# Altium integrated library STMicroelectronics STM32 F1.IntLib: 243 symbols (part 4 of 18)
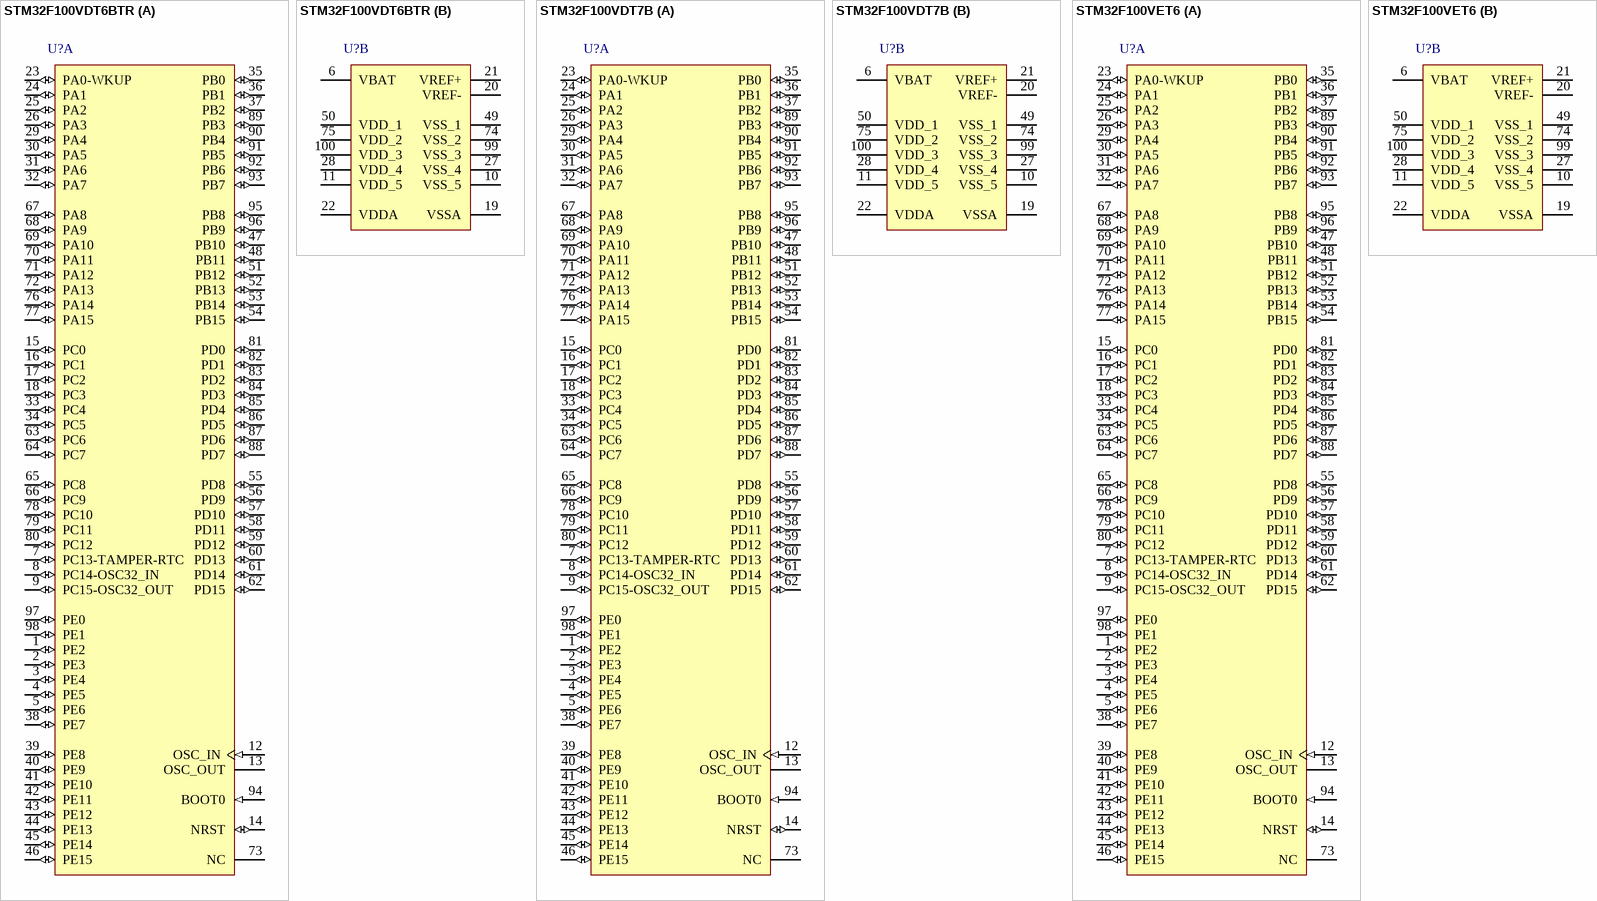
[diagram p45: symbols STM32F100VDT6BTR to STM32F100VET6]

## STM32F100VDT6BTR
designator U?
ARM Cortex-M3 32-bit MCU, 384 KB Flash, 32 KB Internal RAM, 80 I/Os, 100-pin LQFP, -40 to 85 degC, Tape and Reel
footprint STM-LQFP100_N (Thin QFP, 100-Leads, Body 14x14mm, Pitch 0.5mm, IPC Medium Density)
footprint STM-LQFP100_L (Thin QFP, 100-Leads, Body 14x14mm, Pitch 0.5mm, IPC High Density)
footprint STM-LQFP100_M (Thin QFP, 100-Leads, Body 14x14mm, Pitch 0.5mm, IPC Low Density)
footprint STM-LQFP100_V (Thin QFP, 100-Leads, Body 14x14mm, Pitch 0.5mm, ST Recommended)
part A pins: 1 PE2 (io) "PE2/TRACECK/FSMC_A23", 2 PE3 (io) "PE3/TRACED0/FSMC_A19", 3 PE4 (io) "PE4/TRACED1/FSMC_A20", 4 PE5 (io) "PE5/TRACED2/FSMC_A21", 5 PE6 (io) "PE6/TRACED3/FSMC_A22", 7 PC13-TAMPER-RTC (io) "PC13-TAMPER-RTC/PC13/TAMPER-RTC", 8 PC14-OSC32_IN (io) "PC14-OSC32_IN/PC14/OSC32_IN", 9 PC15-OSC32_OUT (io) "PC15-OSC32_OUT/PC15/OSC32_OUT", 12 OSC_IN (in), 13 OSC_OUT, 14 NRST (io), 15 PC0 (io) "PC0/ADC_IN10", 16 PC1 (io) "PC1/ADC_IN11", 17 PC2 (io) "PC2/ADC_IN12", 18 PC3 (io) "PC3/ADC_IN13", 23 PA0-WKUP (io) "PA0-WKUP/PA0/WKUP/USART2_CTS/ADC_IN0/TIM2_CH1_ETR/TIM5_CH1", 24 PA1 (io) "PA1/USART2_RTS/ADC_IN1/TIM5_CH2/TIM2_CH2", 25 PA2 (io) "PA2/USART2_TX/TIM5_CH3/ADC_IN2/TIM15_CH1/TIM2_CH3", 26 PA3 (io) "PA3/USART2_RX/TIM5_CH4/ADC_IN3/TIM2_CH4/TIM15_CH2", 29 PA4 (io) "PA4/SPI1_NSS/USART2_CK/DAC_OUT1/ADC_IN4", 30 PA5 (io) "PA5/SPI1_SCK/DAC_OUT2/ADC_IN5", 31 PA6 (io) "PA6/SPI1_MISO/ADC_IN6/TIM3_CH1/TIM1_BKIN/TIM16_CH1", 32 PA7 (io) "PA7/SPI1_MOSI/ADC_IN7/TIM3_CH2/TIM1_CH1N/TIM17_CH1", 33 PC4 (io) "PC4/ADC_IN14/TIM12_CH1", 34 PC5 (io) "PC5/ADC_IN15/TIM12_CH2", 35 PB0 (io) "PB0/ADC_IN8/TIM3_CH3/TIM1_CH2N/TIM13_CH1", 36 PB1 (io) "PB1/ADC_IN9/TIM3_CH4/TIM1_CH3N/TIM14_CH1", 37 PB2 (io) "PB2/BOOT1", 38 PE7 (io) "PE7/FSMC_D4/TIM1_ETR", 39 PE8 (io) "PE8/FSMC_D5/TIM1_CH1N", 40 PE9 (io) "PE9/FSMC_D6/TIM1_CH1", 41 PE10 (io) "PE10/FSMC_D7/TIM1_CH2N", 42 PE11 (io) "PE11/FSMC_D8/TIM1_CH2", 43 PE12 (io) "PE12/FSMC_D9/TIM1_CH3N", 44 PE13 (io) "PE13/FSMC_D10/TIM1_CH3", 45 PE14 (io) "PE14/FSMC_D11/TIM1_CH4", 46 PE15 (io) "PE15/FSMC_D12/TIM1_BKIN", 47 PB10 (io) "PB10/I2C2_SCL/USART3_TX/TIM2_CH3/HDMI_CEC", 48 PB11 (io) "PB11/I2C2_SDA/USART3_RX/TIM2_CH4", 51 PB12 (io) "PB12/SPI2_NSS/I2C2_SMBA/USART3_CK/TIM1_BKIN/TIM12_CH1", 52 PB13 (io) "PB13/SPI2_SCK/USART3_CTS/TIM1_CH1N/TIM12_CH2", 53 PB14 (io) "PB14/SPI2_MISO/TIM1_CH2N/USART3_RTS/TIM15_CH1", 54 PB15 (io) "PB15/SPI2_MOSI/TIM1_CH3N/TIM15_CH1N/TIM15_CH2", 55 PD8 (io) "PD8/FSMC_D13/USART3_TX", 56 PD9 (io) "PD9/FSMC_D14/USART3_RX", 57 PD10 (io) "PD10/FSMC_D15/USART3_CK", 58 PD11 (io) "PD11/FSMC_A16/USART3_CTS", 59 PD12 (io) "PD12/FSMC_A17/TIM4_CH1/USART3_RTS", 60 PD13 (io) "PD13/FSMC_A18/TIM4_CH2", 61 PD14 (io) "PD14/FSMC_D0/TIM4_CH3", 62 PD15 (io) "PD15/FSMC_D1/TIM4_CH4", 63 PC6 (io) "PC6/TIM3_CH1", 64 PC7 (io) "PC7/TIM3_CH2", 65 PC8 (io) "PC8/TIM13_CH1/TIM3_CH3", 66 PC9 (io) "PC9/TIM14_CH1/TIM3_CH4", 67 PA8 (io) "PA8/USART1_CK/TIM1_CH1/MCO", 68 PA9 (io) "PA9/USART1_TX/TIM1_CH2/TIM15_BKIN", 69 PA10 (io) "PA10/USART1_RX/TIM1_CH3/TIM17_BKIN", 70 PA11 (io) "PA11/USART1_CTS/TIM1_CH4", 71 PA12 (io) "PA12/USART1_RTS/TIM1_ETR", 72 PA13 (io) "PA13/JTMS-SWDIO", 73 NC, 76 PA14 (io) "PA14/JTCK-SWCLK", 77 PA15 (io) "PA15/JTDI/SPI3_NSS/TIM2_CH1_ETR/SPI1_NSS", 78 PC10 (io) "PC10/UART4_TX/USART3_TX", 79 PC11 (io) "PC11/UART4_RX/USART3_RX", 80 PC12 (io) "PC12/UART5_TX/USART3_CK", 81 PD0 (io) "PD0/FSMC_D2", 82 PD1 (io) "PD1/FSMC_D3", 83 PD2 (io) "PD2/TIM3_ETR/UART5_RX", 84 PD3 (io) "PD3/FSMC_CLK/USART2_CTS", 85 PD4 (io) "PD4/FSMC_NOE/USART2_RTS", 86 PD5 (io) "PD5/FSMC_NWE/USART2_TX", 87 PD6 (io) "PD6/FSMC_NWAIT/USART2_RX", 88 PD7 (io) "PD7/FSMC_NE1/USART2_CK", 89 PB3 (io) "PB3/JTDO/SPI3_SCK/TRACESWO/TIM2_CH2/SPI1_SCK", 90 PB4 (io) "PB4/NJTRST/SPI3_MISO/TIM3_CH1/SPI1_MISO", 91 PB5 (io) "PB5/I2C1_SMBA/SPI3_MOSI/TIM16_BKIN/TIM3_CH2/SPI1_MOSI", 92 PB6 (io) "PB6/I2C1_SCL/TIM4_CH1/TIM16_CH1N/USART1_TX", 93 PB7 (io) "PB7/I2C1_SDA/FSMC_NADV/TIM4_CH2/TIM17_CH1N/USART1_RX", 94 BOOT0 (in), 95 PB8 (io) "PB8/TIM4_CH3/TIM16_CH1/HDMI_CEC/I2C1_SCL", 96 PB9 (io) "PB9/TIM4_CH4/TIM17_CH1/I2C1_SDA", 97 PE0 (io) "PE0/TIM4_ETR/FSMC_NBL0", 98 PE1 (io) "PE1/FSMC_NBL1"
part B pins: 6 VBAT (power), 10 VSS_5 (power), 11 VDD_5 (power), 19 VSSA (power), 20 VREF- (power), 21 VREF+ (power), 22 VDDA (power), 27 VSS_4 (power), 28 VDD_4 (power), 49 VSS_1 (power), 50 VDD_1 (power), 74 VSS_2 (power), 75 VDD_2 (power), 99 VSS_3 (power), 100 VDD_3 (power)

## STM32F100VDT7B
designator U?
ARM Cortex-M3 32-bit MCU, 384 KB Flash, 32 KB Internal RAM, 80 I/Os, 100-pin LQFP, -40 to 105 degC, Tray
footprint STM-LQFP100_N (Thin QFP, 100-Leads, Body 14x14mm, Pitch 0.5mm, IPC Medium Density)
footprint STM-LQFP100_L (Thin QFP, 100-Leads, Body 14x14mm, Pitch 0.5mm, IPC High Density)
footprint STM-LQFP100_M (Thin QFP, 100-Leads, Body 14x14mm, Pitch 0.5mm, IPC Low Density)
footprint STM-LQFP100_V (Thin QFP, 100-Leads, Body 14x14mm, Pitch 0.5mm, ST Recommended)
part A pins: 1 PE2 (io) "PE2/TRACECK/FSMC_A23", 2 PE3 (io) "PE3/TRACED0/FSMC_A19", 3 PE4 (io) "PE4/TRACED1/FSMC_A20", 4 PE5 (io) "PE5/TRACED2/FSMC_A21", 5 PE6 (io) "PE6/TRACED3/FSMC_A22", 7 PC13-TAMPER-RTC (io) "PC13-TAMPER-RTC/PC13/TAMPER-RTC", 8 PC14-OSC32_IN (io) "PC14-OSC32_IN/PC14/OSC32_IN", 9 PC15-OSC32_OUT (io) "PC15-OSC32_OUT/PC15/OSC32_OUT", 12 OSC_IN (in), 13 OSC_OUT, 14 NRST (io), 15 PC0 (io) "PC0/ADC_IN10", 16 PC1 (io) "PC1/ADC_IN11", 17 PC2 (io) "PC2/ADC_IN12", 18 PC3 (io) "PC3/ADC_IN13", 23 PA0-WKUP (io) "PA0-WKUP/PA0/WKUP/USART2_CTS/ADC_IN0/TIM2_CH1_ETR/TIM5_CH1", 24 PA1 (io) "PA1/USART2_RTS/ADC_IN1/TIM5_CH2/TIM2_CH2", 25 PA2 (io) "PA2/USART2_TX/TIM5_CH3/ADC_IN2/TIM15_CH1/TIM2_CH3", 26 PA3 (io) "PA3/USART2_RX/TIM5_CH4/ADC_IN3/TIM2_CH4/TIM15_CH2", 29 PA4 (io) "PA4/SPI1_NSS/USART2_CK/DAC_OUT1/ADC_IN4", 30 PA5 (io) "PA5/SPI1_SCK/DAC_OUT2/ADC_IN5", 31 PA6 (io) "PA6/SPI1_MISO/ADC_IN6/TIM3_CH1/TIM1_BKIN/TIM16_CH1", 32 PA7 (io) "PA7/SPI1_MOSI/ADC_IN7/TIM3_CH2/TIM1_CH1N/TIM17_CH1", 33 PC4 (io) "PC4/ADC_IN14/TIM12_CH1", 34 PC5 (io) "PC5/ADC_IN15/TIM12_CH2", 35 PB0 (io) "PB0/ADC_IN8/TIM3_CH3/TIM1_CH2N/TIM13_CH1", 36 PB1 (io) "PB1/ADC_IN9/TIM3_CH4/TIM1_CH3N/TIM14_CH1", 37 PB2 (io) "PB2/BOOT1", 38 PE7 (io) "PE7/FSMC_D4/TIM1_ETR", 39 PE8 (io) "PE8/FSMC_D5/TIM1_CH1N", 40 PE9 (io) "PE9/FSMC_D6/TIM1_CH1", 41 PE10 (io) "PE10/FSMC_D7/TIM1_CH2N", 42 PE11 (io) "PE11/FSMC_D8/TIM1_CH2", 43 PE12 (io) "PE12/FSMC_D9/TIM1_CH3N", 44 PE13 (io) "PE13/FSMC_D10/TIM1_CH3", 45 PE14 (io) "PE14/FSMC_D11/TIM1_CH4", 46 PE15 (io) "PE15/FSMC_D12/TIM1_BKIN", 47 PB10 (io) "PB10/I2C2_SCL/USART3_TX/TIM2_CH3/HDMI_CEC", 48 PB11 (io) "PB11/I2C2_SDA/USART3_RX/TIM2_CH4", 51 PB12 (io) "PB12/SPI2_NSS/I2C2_SMBA/USART3_CK/TIM1_BKIN/TIM12_CH1", 52 PB13 (io) "PB13/SPI2_SCK/USART3_CTS/TIM1_CH1N/TIM12_CH2", 53 PB14 (io) "PB14/SPI2_MISO/TIM1_CH2N/USART3_RTS/TIM15_CH1", 54 PB15 (io) "PB15/SPI2_MOSI/TIM1_CH3N/TIM15_CH1N/TIM15_CH2", 55 PD8 (io) "PD8/FSMC_D13/USART3_TX", 56 PD9 (io) "PD9/FSMC_D14/USART3_RX", 57 PD10 (io) "PD10/FSMC_D15/USART3_CK", 58 PD11 (io) "PD11/FSMC_A16/USART3_CTS", 59 PD12 (io) "PD12/FSMC_A17/TIM4_CH1/USART3_RTS", 60 PD13 (io) "PD13/FSMC_A18/TIM4_CH2", 61 PD14 (io) "PD14/FSMC_D0/TIM4_CH3", 62 PD15 (io) "PD15/FSMC_D1/TIM4_CH4", 63 PC6 (io) "PC6/TIM3_CH1", 64 PC7 (io) "PC7/TIM3_CH2", 65 PC8 (io) "PC8/TIM13_CH1/TIM3_CH3", 66 PC9 (io) "PC9/TIM14_CH1/TIM3_CH4", 67 PA8 (io) "PA8/USART1_CK/TIM1_CH1/MCO", 68 PA9 (io) "PA9/USART1_TX/TIM1_CH2/TIM15_BKIN", 69 PA10 (io) "PA10/USART1_RX/TIM1_CH3/TIM17_BKIN", 70 PA11 (io) "PA11/USART1_CTS/TIM1_CH4", 71 PA12 (io) "PA12/USART1_RTS/TIM1_ETR", 72 PA13 (io) "PA13/JTMS-SWDIO", 73 NC, 76 PA14 (io) "PA14/JTCK-SWCLK", 77 PA15 (io) "PA15/JTDI/SPI3_NSS/TIM2_CH1_ETR/SPI1_NSS", 78 PC10 (io) "PC10/UART4_TX/USART3_TX", 79 PC11 (io) "PC11/UART4_RX/USART3_RX", 80 PC12 (io) "PC12/UART5_TX/USART3_CK", 81 PD0 (io) "PD0/FSMC_D2", 82 PD1 (io) "PD1/FSMC_D3", 83 PD2 (io) "PD2/TIM3_ETR/UART5_RX", 84 PD3 (io) "PD3/FSMC_CLK/USART2_CTS", 85 PD4 (io) "PD4/FSMC_NOE/USART2_RTS", 86 PD5 (io) "PD5/FSMC_NWE/USART2_TX", 87 PD6 (io) "PD6/FSMC_NWAIT/USART2_RX", 88 PD7 (io) "PD7/FSMC_NE1/USART2_CK", 89 PB3 (io) "PB3/JTDO/SPI3_SCK/TRACESWO/TIM2_CH2/SPI1_SCK", 90 PB4 (io) "PB4/NJTRST/SPI3_MISO/TIM3_CH1/SPI1_MISO", 91 PB5 (io) "PB5/I2C1_SMBA/SPI3_MOSI/TIM16_BKIN/TIM3_CH2/SPI1_MOSI", 92 PB6 (io) "PB6/I2C1_SCL/TIM4_CH1/TIM16_CH1N/USART1_TX", 93 PB7 (io) "PB7/I2C1_SDA/FSMC_NADV/TIM4_CH2/TIM17_CH1N/USART1_RX", 94 BOOT0 (in), 95 PB8 (io) "PB8/TIM4_CH3/TIM16_CH1/HDMI_CEC/I2C1_SCL", 96 PB9 (io) "PB9/TIM4_CH4/TIM17_CH1/I2C1_SDA", 97 PE0 (io) "PE0/TIM4_ETR/FSMC_NBL0", 98 PE1 (io) "PE1/FSMC_NBL1"
part B pins: 6 VBAT (power), 10 VSS_5 (power), 11 VDD_5 (power), 19 VSSA (power), 20 VREF- (power), 21 VREF+ (power), 22 VDDA (power), 27 VSS_4 (power), 28 VDD_4 (power), 49 VSS_1 (power), 50 VDD_1 (power), 74 VSS_2 (power), 75 VDD_2 (power), 99 VSS_3 (power), 100 VDD_3 (power)

## STM32F100VET6
designator U?
ARM Cortex-M3 32-bit MCU, 512 KB Flash, 32 KB Internal RAM, 80 I/Os, 100-pin LQFP, -40 to 85 degC, Tray
footprint STM-LQFP100_N (Thin QFP, 100-Leads, Body 14x14mm, Pitch 0.5mm, IPC Medium Density)
footprint STM-LQFP100_L (Thin QFP, 100-Leads, Body 14x14mm, Pitch 0.5mm, IPC High Density)
footprint STM-LQFP100_M (Thin QFP, 100-Leads, Body 14x14mm, Pitch 0.5mm, IPC Low Density)
footprint STM-LQFP100_V (Thin QFP, 100-Leads, Body 14x14mm, Pitch 0.5mm, ST Recommended)
part A pins: 1 PE2 (io) "PE2/TRACECK/FSMC_A23", 2 PE3 (io) "PE3/TRACED0/FSMC_A19", 3 PE4 (io) "PE4/TRACED1/FSMC_A20", 4 PE5 (io) "PE5/TRACED2/FSMC_A21", 5 PE6 (io) "PE6/TRACED3/FSMC_A22", 7 PC13-TAMPER-RTC (io) "PC13-TAMPER-RTC/PC13/TAMPER-RTC", 8 PC14-OSC32_IN (io) "PC14-OSC32_IN/PC14/OSC32_IN", 9 PC15-OSC32_OUT (io) "PC15-OSC32_OUT/PC15/OSC32_OUT", 12 OSC_IN (in), 13 OSC_OUT, 14 NRST (io), 15 PC0 (io) "PC0/ADC_IN10", 16 PC1 (io) "PC1/ADC_IN11", 17 PC2 (io) "PC2/ADC_IN12", 18 PC3 (io) "PC3/ADC_IN13", 23 PA0-WKUP (io) "PA0-WKUP/PA0/WKUP/USART2_CTS/ADC_IN0/TIM2_CH1_ETR/TIM5_CH1", 24 PA1 (io) "PA1/USART2_RTS/ADC_IN1/TIM5_CH2/TIM2_CH2", 25 PA2 (io) "PA2/USART2_TX/TIM5_CH3/ADC_IN2/TIM15_CH1/TIM2_CH3", 26 PA3 (io) "PA3/USART2_RX/TIM5_CH4/ADC_IN3/TIM2_CH4/TIM15_CH2", 29 PA4 (io) "PA4/SPI1_NSS/USART2_CK/DAC_OUT1/ADC_IN4", 30 PA5 (io) "PA5/SPI1_SCK/DAC_OUT2/ADC_IN5", 31 PA6 (io) "PA6/SPI1_MISO/ADC_IN6/TIM3_CH1/TIM1_BKIN/TIM16_CH1", 32 PA7 (io) "PA7/SPI1_MOSI/ADC_IN7/TIM3_CH2/TIM1_CH1N/TIM17_CH1", 33 PC4 (io) "PC4/ADC_IN14/TIM12_CH1", 34 PC5 (io) "PC5/ADC_IN15/TIM12_CH2", 35 PB0 (io) "PB0/ADC_IN8/TIM3_CH3/TIM1_CH2N/TIM13_CH1", 36 PB1 (io) "PB1/ADC_IN9/TIM3_CH4/TIM1_CH3N/TIM14_CH1", 37 PB2 (io) "PB2/BOOT1", 38 PE7 (io) "PE7/FSMC_D4/TIM1_ETR", 39 PE8 (io) "PE8/FSMC_D5/TIM1_CH1N", 40 PE9 (io) "PE9/FSMC_D6/TIM1_CH1", 41 PE10 (io) "PE10/FSMC_D7/TIM1_CH2N", 42 PE11 (io) "PE11/FSMC_D8/TIM1_CH2", 43 PE12 (io) "PE12/FSMC_D9/TIM1_CH3N", 44 PE13 (io) "PE13/FSMC_D10/TIM1_CH3", 45 PE14 (io) "PE14/FSMC_D11/TIM1_CH4", 46 PE15 (io) "PE15/FSMC_D12/TIM1_BKIN", 47 PB10 (io) "PB10/I2C2_SCL/USART3_TX/TIM2_CH3/HDMI_CEC", 48 PB11 (io) "PB11/I2C2_SDA/USART3_RX/TIM2_CH4", 51 PB12 (io) "PB12/SPI2_NSS/I2C2_SMBA/USART3_CK/TIM1_BKIN/TIM12_CH1", 52 PB13 (io) "PB13/SPI2_SCK/USART3_CTS/TIM1_CH1N/TIM12_CH2", 53 PB14 (io) "PB14/SPI2_MISO/TIM1_CH2N/USART3_RTS/TIM15_CH1", 54 PB15 (io) "PB15/SPI2_MOSI/TIM1_CH3N/TIM15_CH1N/TIM15_CH2", 55 PD8 (io) "PD8/FSMC_D13/USART3_TX", 56 PD9 (io) "PD9/FSMC_D14/USART3_RX", 57 PD10 (io) "PD10/FSMC_D15/USART3_CK", 58 PD11 (io) "PD11/FSMC_A16/USART3_CTS", 59 PD12 (io) "PD12/FSMC_A17/TIM4_CH1/USART3_RTS", 60 PD13 (io) "PD13/FSMC_A18/TIM4_CH2", 61 PD14 (io) "PD14/FSMC_D0/TIM4_CH3", 62 PD15 (io) "PD15/FSMC_D1/TIM4_CH4", 63 PC6 (io) "PC6/TIM3_CH1", 64 PC7 (io) "PC7/TIM3_CH2", 65 PC8 (io) "PC8/TIM13_CH1/TIM3_CH3", 66 PC9 (io) "PC9/TIM14_CH1/TIM3_CH4", 67 PA8 (io) "PA8/USART1_CK/TIM1_CH1/MCO", 68 PA9 (io) "PA9/USART1_TX/TIM1_CH2/TIM15_BKIN", 69 PA10 (io) "PA10/USART1_RX/TIM1_CH3/TIM17_BKIN", 70 PA11 (io) "PA11/USART1_CTS/TIM1_CH4", 71 PA12 (io) "PA12/USART1_RTS/TIM1_ETR", 72 PA13 (io) "PA13/JTMS-SWDIO", 73 NC, 76 PA14 (io) "PA14/JTCK-SWCLK", 77 PA15 (io) "PA15/JTDI/SPI3_NSS/TIM2_CH1_ETR/SPI1_NSS", 78 PC10 (io) "PC10/UART4_TX/USART3_TX", 79 PC11 (io) "PC11/UART4_RX/USART3_RX", 80 PC12 (io) "PC12/UART5_TX/USART3_CK", 81 PD0 (io) "PD0/FSMC_D2", 82 PD1 (io) "PD1/FSMC_D3", 83 PD2 (io) "PD2/TIM3_ETR/UART5_RX", 84 PD3 (io) "PD3/FSMC_CLK/USART2_CTS", 85 PD4 (io) "PD4/FSMC_NOE/USART2_RTS", 86 PD5 (io) "PD5/FSMC_NWE/USART2_TX", 87 PD6 (io) "PD6/FSMC_NWAIT/USART2_RX", 88 PD7 (io) "PD7/FSMC_NE1/USART2_CK", 89 PB3 (io) "PB3/JTDO/SPI3_SCK/TRACESWO/TIM2_CH2/SPI1_SCK", 90 PB4 (io) "PB4/NJTRST/SPI3_MISO/TIM3_CH1/SPI1_MISO", 91 PB5 (io) "PB5/I2C1_SMBA/SPI3_MOSI/TIM16_BKIN/TIM3_CH2/SPI1_MOSI", 92 PB6 (io) "PB6/I2C1_SCL/TIM4_CH1/TIM16_CH1N/USART1_TX", 93 PB7 (io) "PB7/I2C1_SDA/FSMC_NADV/TIM4_CH2/TIM17_CH1N/USART1_RX", 94 BOOT0 (in), 95 PB8 (io) "PB8/TIM4_CH3/TIM16_CH1/HDMI_CEC/I2C1_SCL", 96 PB9 (io) "PB9/TIM4_CH4/TIM17_CH1/I2C1_SDA", 97 PE0 (io) "PE0/TIM4_ETR/FSMC_NBL0", 98 PE1 (io) "PE1/FSMC_NBL1"
part B pins: 6 VBAT (power), 10 VSS_5 (power), 11 VDD_5 (power), 19 VSSA (power), 20 VREF- (power), 21 VREF+ (power), 22 VDDA (power), 27 VSS_4 (power), 28 VDD_4 (power), 49 VSS_1 (power), 50 VDD_1 (power), 74 VSS_2 (power), 75 VDD_2 (power), 99 VSS_3 (power), 100 VDD_3 (power)

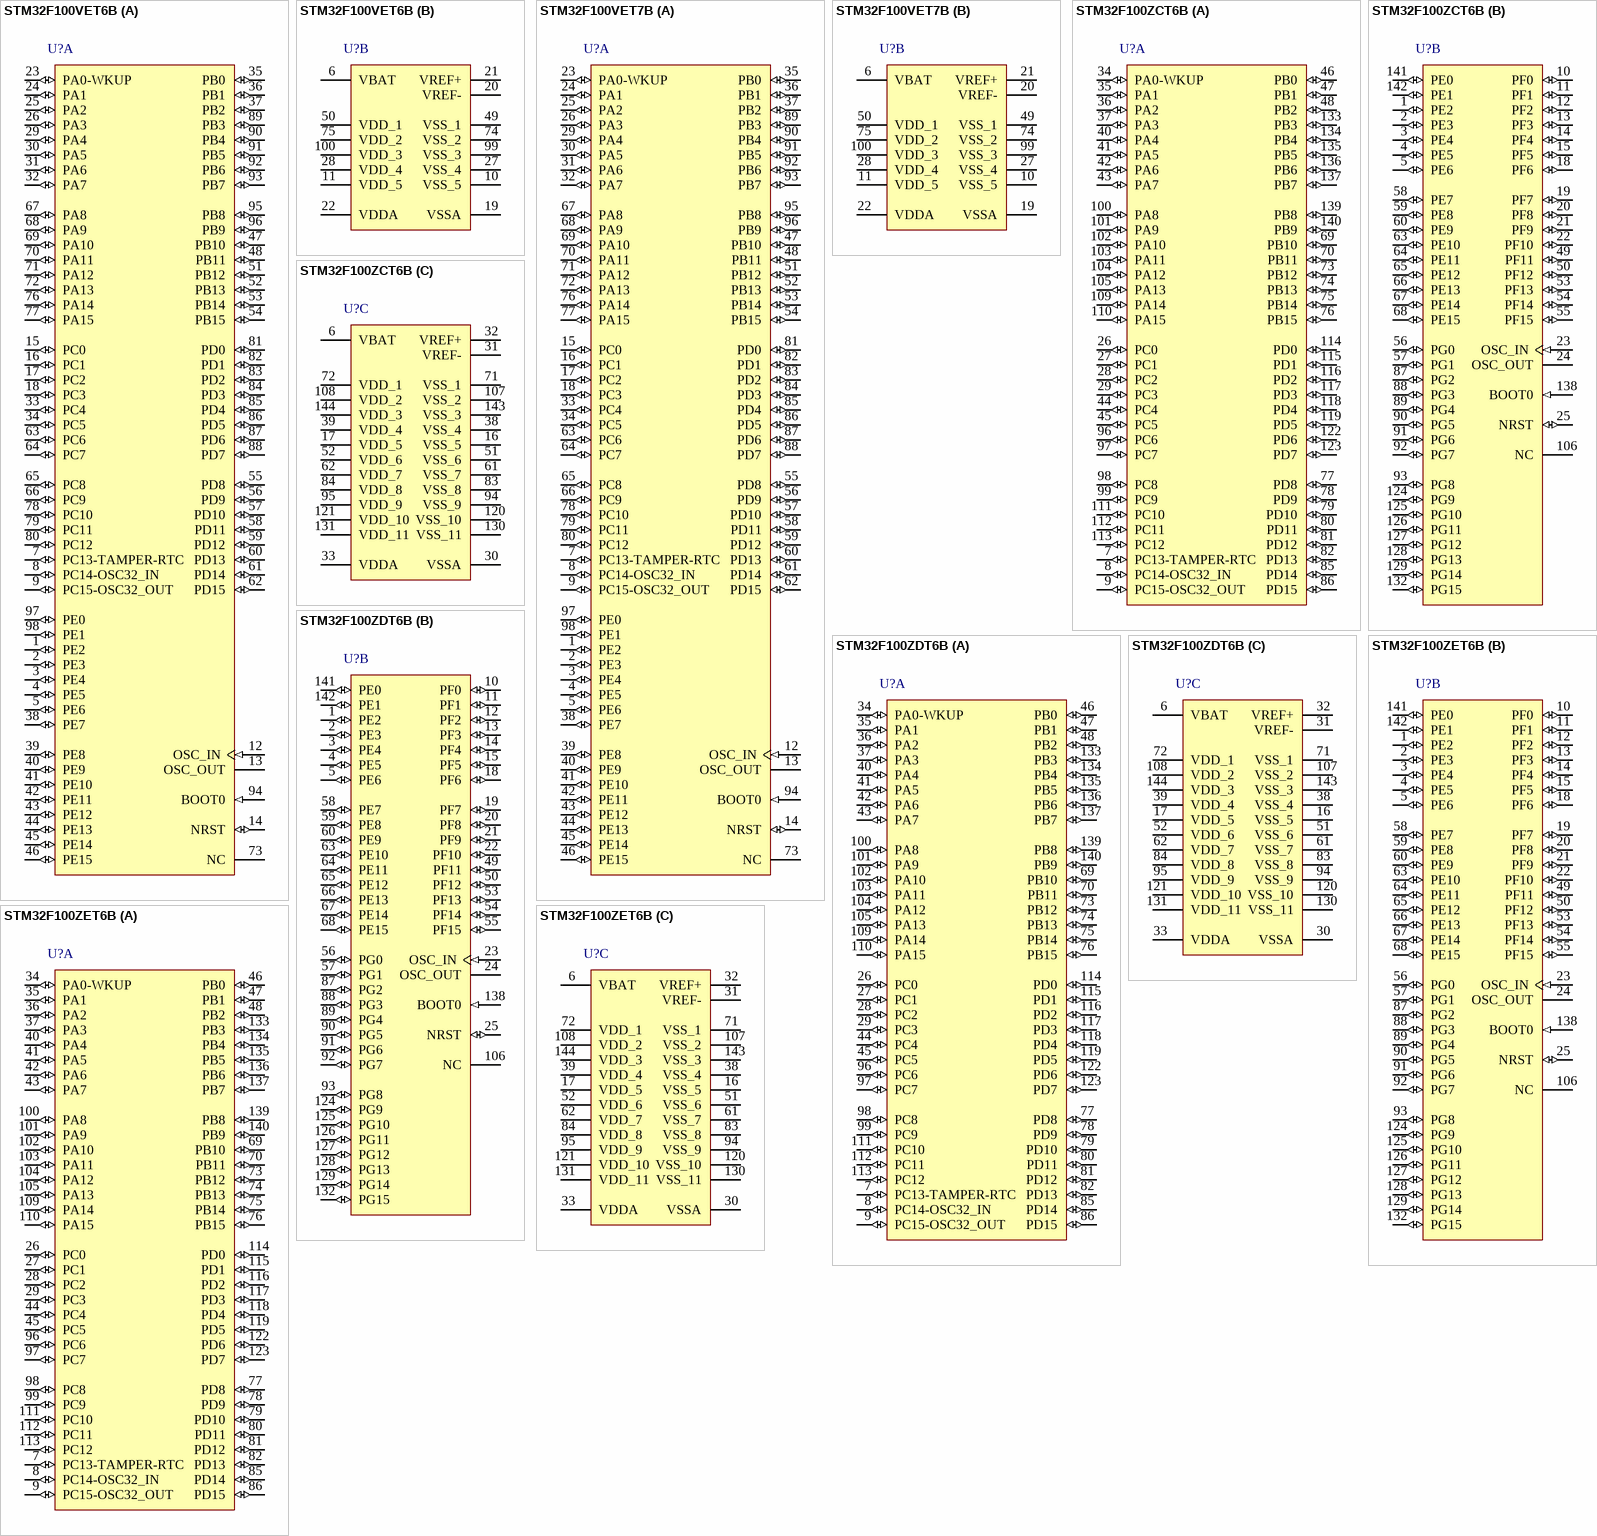
[diagram p8: symbols STM32F100VET6B to STM32F100ZET6B]

## STM32F100VET6B
designator U?
ARM Cortex-M3 32-bit MCU, 512 KB Flash, 32 KB Internal RAM, 80 I/Os, 100-pin LQFP, -40 to 85 degC, Tray
footprint STM-LQFP100_N (Thin QFP, 100-Leads, Body 14x14mm, Pitch 0.5mm, IPC Medium Density)
footprint STM-LQFP100_L (Thin QFP, 100-Leads, Body 14x14mm, Pitch 0.5mm, IPC High Density)
footprint STM-LQFP100_M (Thin QFP, 100-Leads, Body 14x14mm, Pitch 0.5mm, IPC Low Density)
footprint STM-LQFP100_V (Thin QFP, 100-Leads, Body 14x14mm, Pitch 0.5mm, ST Recommended)
part A pins: 1 PE2 (io) "PE2/TRACECK/FSMC_A23", 2 PE3 (io) "PE3/TRACED0/FSMC_A19", 3 PE4 (io) "PE4/TRACED1/FSMC_A20", 4 PE5 (io) "PE5/TRACED2/FSMC_A21", 5 PE6 (io) "PE6/TRACED3/FSMC_A22", 7 PC13-TAMPER-RTC (io) "PC13-TAMPER-RTC/PC13/TAMPER-RTC", 8 PC14-OSC32_IN (io) "PC14-OSC32_IN/PC14/OSC32_IN", 9 PC15-OSC32_OUT (io) "PC15-OSC32_OUT/PC15/OSC32_OUT", 12 OSC_IN (in), 13 OSC_OUT, 14 NRST (io), 15 PC0 (io) "PC0/ADC_IN10", 16 PC1 (io) "PC1/ADC_IN11", 17 PC2 (io) "PC2/ADC_IN12", 18 PC3 (io) "PC3/ADC_IN13", 23 PA0-WKUP (io) "PA0-WKUP/PA0/WKUP/USART2_CTS/ADC_IN0/TIM2_CH1_ETR/TIM5_CH1", 24 PA1 (io) "PA1/USART2_RTS/ADC_IN1/TIM5_CH2/TIM2_CH2", 25 PA2 (io) "PA2/USART2_TX/TIM5_CH3/ADC_IN2/TIM15_CH1/TIM2_CH3", 26 PA3 (io) "PA3/USART2_RX/TIM5_CH4/ADC_IN3/TIM2_CH4/TIM15_CH2", 29 PA4 (io) "PA4/SPI1_NSS/USART2_CK/DAC_OUT1/ADC_IN4", 30 PA5 (io) "PA5/SPI1_SCK/DAC_OUT2/ADC_IN5", 31 PA6 (io) "PA6/SPI1_MISO/ADC_IN6/TIM3_CH1/TIM1_BKIN/TIM16_CH1", 32 PA7 (io) "PA7/SPI1_MOSI/ADC_IN7/TIM3_CH2/TIM1_CH1N/TIM17_CH1", 33 PC4 (io) "PC4/ADC_IN14/TIM12_CH1", 34 PC5 (io) "PC5/ADC_IN15/TIM12_CH2", 35 PB0 (io) "PB0/ADC_IN8/TIM3_CH3/TIM1_CH2N/TIM13_CH1", 36 PB1 (io) "PB1/ADC_IN9/TIM3_CH4/TIM1_CH3N/TIM14_CH1", 37 PB2 (io) "PB2/BOOT1", 38 PE7 (io) "PE7/FSMC_D4/TIM1_ETR", 39 PE8 (io) "PE8/FSMC_D5/TIM1_CH1N", 40 PE9 (io) "PE9/FSMC_D6/TIM1_CH1", 41 PE10 (io) "PE10/FSMC_D7/TIM1_CH2N", 42 PE11 (io) "PE11/FSMC_D8/TIM1_CH2", 43 PE12 (io) "PE12/FSMC_D9/TIM1_CH3N", 44 PE13 (io) "PE13/FSMC_D10/TIM1_CH3", 45 PE14 (io) "PE14/FSMC_D11/TIM1_CH4", 46 PE15 (io) "PE15/FSMC_D12/TIM1_BKIN", 47 PB10 (io) "PB10/I2C2_SCL/USART3_TX/TIM2_CH3/HDMI_CEC", 48 PB11 (io) "PB11/I2C2_SDA/USART3_RX/TIM2_CH4", 51 PB12 (io) "PB12/SPI2_NSS/I2C2_SMBA/USART3_CK/TIM1_BKIN/TIM12_CH1", 52 PB13 (io) "PB13/SPI2_SCK/USART3_CTS/TIM1_CH1N/TIM12_CH2", 53 PB14 (io) "PB14/SPI2_MISO/TIM1_CH2N/USART3_RTS/TIM15_CH1", 54 PB15 (io) "PB15/SPI2_MOSI/TIM1_CH3N/TIM15_CH1N/TIM15_CH2", 55 PD8 (io) "PD8/FSMC_D13/USART3_TX", 56 PD9 (io) "PD9/FSMC_D14/USART3_RX", 57 PD10 (io) "PD10/FSMC_D15/USART3_CK", 58 PD11 (io) "PD11/FSMC_A16/USART3_CTS", 59 PD12 (io) "PD12/FSMC_A17/TIM4_CH1/USART3_RTS", 60 PD13 (io) "PD13/FSMC_A18/TIM4_CH2", 61 PD14 (io) "PD14/FSMC_D0/TIM4_CH3", 62 PD15 (io) "PD15/FSMC_D1/TIM4_CH4", 63 PC6 (io) "PC6/TIM3_CH1", 64 PC7 (io) "PC7/TIM3_CH2", 65 PC8 (io) "PC8/TIM13_CH1/TIM3_CH3", 66 PC9 (io) "PC9/TIM14_CH1/TIM3_CH4", 67 PA8 (io) "PA8/USART1_CK/TIM1_CH1/MCO", 68 PA9 (io) "PA9/USART1_TX/TIM1_CH2/TIM15_BKIN", 69 PA10 (io) "PA10/USART1_RX/TIM1_CH3/TIM17_BKIN", 70 PA11 (io) "PA11/USART1_CTS/TIM1_CH4", 71 PA12 (io) "PA12/USART1_RTS/TIM1_ETR", 72 PA13 (io) "PA13/JTMS-SWDIO", 73 NC, 76 PA14 (io) "PA14/JTCK-SWCLK", 77 PA15 (io) "PA15/JTDI/SPI3_NSS/TIM2_CH1_ETR/SPI1_NSS", 78 PC10 (io) "PC10/UART4_TX/USART3_TX", 79 PC11 (io) "PC11/UART4_RX/USART3_RX", 80 PC12 (io) "PC12/UART5_TX/USART3_CK", 81 PD0 (io) "PD0/FSMC_D2", 82 PD1 (io) "PD1/FSMC_D3", 83 PD2 (io) "PD2/TIM3_ETR/UART5_RX", 84 PD3 (io) "PD3/FSMC_CLK/USART2_CTS", 85 PD4 (io) "PD4/FSMC_NOE/USART2_RTS", 86 PD5 (io) "PD5/FSMC_NWE/USART2_TX", 87 PD6 (io) "PD6/FSMC_NWAIT/USART2_RX", 88 PD7 (io) "PD7/FSMC_NE1/USART2_CK", 89 PB3 (io) "PB3/JTDO/SPI3_SCK/TRACESWO/TIM2_CH2/SPI1_SCK", 90 PB4 (io) "PB4/NJTRST/SPI3_MISO/TIM3_CH1/SPI1_MISO", 91 PB5 (io) "PB5/I2C1_SMBA/SPI3_MOSI/TIM16_BKIN/TIM3_CH2/SPI1_MOSI", 92 PB6 (io) "PB6/I2C1_SCL/TIM4_CH1/TIM16_CH1N/USART1_TX", 93 PB7 (io) "PB7/I2C1_SDA/FSMC_NADV/TIM4_CH2/TIM17_CH1N/USART1_RX", 94 BOOT0 (in), 95 PB8 (io) "PB8/TIM4_CH3/TIM16_CH1/HDMI_CEC/I2C1_SCL", 96 PB9 (io) "PB9/TIM4_CH4/TIM17_CH1/I2C1_SDA", 97 PE0 (io) "PE0/TIM4_ETR/FSMC_NBL0", 98 PE1 (io) "PE1/FSMC_NBL1"
part B pins: 6 VBAT (power), 10 VSS_5 (power), 11 VDD_5 (power), 19 VSSA (power), 20 VREF- (power), 21 VREF+ (power), 22 VDDA (power), 27 VSS_4 (power), 28 VDD_4 (power), 49 VSS_1 (power), 50 VDD_1 (power), 74 VSS_2 (power), 75 VDD_2 (power), 99 VSS_3 (power), 100 VDD_3 (power)

## STM32F100VET7B
designator U?
ARM Cortex-M3 32-bit MCU, 512 KB Flash, 32 KB Internal RAM, 80 I/Os, 100-pin LQFP, -40 to 105 degC, Tray
footprint STM-LQFP100_N (Thin QFP, 100-Leads, Body 14x14mm, Pitch 0.5mm, IPC Medium Density)
footprint STM-LQFP100_L (Thin QFP, 100-Leads, Body 14x14mm, Pitch 0.5mm, IPC High Density)
footprint STM-LQFP100_M (Thin QFP, 100-Leads, Body 14x14mm, Pitch 0.5mm, IPC Low Density)
footprint STM-LQFP100_V (Thin QFP, 100-Leads, Body 14x14mm, Pitch 0.5mm, ST Recommended)
part A pins: 1 PE2 (io) "PE2/TRACECK/FSMC_A23", 2 PE3 (io) "PE3/TRACED0/FSMC_A19", 3 PE4 (io) "PE4/TRACED1/FSMC_A20", 4 PE5 (io) "PE5/TRACED2/FSMC_A21", 5 PE6 (io) "PE6/TRACED3/FSMC_A22", 7 PC13-TAMPER-RTC (io) "PC13-TAMPER-RTC/PC13/TAMPER-RTC", 8 PC14-OSC32_IN (io) "PC14-OSC32_IN/PC14/OSC32_IN", 9 PC15-OSC32_OUT (io) "PC15-OSC32_OUT/PC15/OSC32_OUT", 12 OSC_IN (in), 13 OSC_OUT, 14 NRST (io), 15 PC0 (io) "PC0/ADC_IN10", 16 PC1 (io) "PC1/ADC_IN11", 17 PC2 (io) "PC2/ADC_IN12", 18 PC3 (io) "PC3/ADC_IN13", 23 PA0-WKUP (io) "PA0-WKUP/PA0/WKUP/USART2_CTS/ADC_IN0/TIM2_CH1_ETR/TIM5_CH1", 24 PA1 (io) "PA1/USART2_RTS/ADC_IN1/TIM5_CH2/TIM2_CH2", 25 PA2 (io) "PA2/USART2_TX/TIM5_CH3/ADC_IN2/TIM15_CH1/TIM2_CH3", 26 PA3 (io) "PA3/USART2_RX/TIM5_CH4/ADC_IN3/TIM2_CH4/TIM15_CH2", 29 PA4 (io) "PA4/SPI1_NSS/USART2_CK/DAC_OUT1/ADC_IN4", 30 PA5 (io) "PA5/SPI1_SCK/DAC_OUT2/ADC_IN5", 31 PA6 (io) "PA6/SPI1_MISO/ADC_IN6/TIM3_CH1/TIM1_BKIN/TIM16_CH1", 32 PA7 (io) "PA7/SPI1_MOSI/ADC_IN7/TIM3_CH2/TIM1_CH1N/TIM17_CH1", 33 PC4 (io) "PC4/ADC_IN14/TIM12_CH1", 34 PC5 (io) "PC5/ADC_IN15/TIM12_CH2", 35 PB0 (io) "PB0/ADC_IN8/TIM3_CH3/TIM1_CH2N/TIM13_CH1", 36 PB1 (io) "PB1/ADC_IN9/TIM3_CH4/TIM1_CH3N/TIM14_CH1", 37 PB2 (io) "PB2/BOOT1", 38 PE7 (io) "PE7/FSMC_D4/TIM1_ETR", 39 PE8 (io) "PE8/FSMC_D5/TIM1_CH1N", 40 PE9 (io) "PE9/FSMC_D6/TIM1_CH1", 41 PE10 (io) "PE10/FSMC_D7/TIM1_CH2N", 42 PE11 (io) "PE11/FSMC_D8/TIM1_CH2", 43 PE12 (io) "PE12/FSMC_D9/TIM1_CH3N", 44 PE13 (io) "PE13/FSMC_D10/TIM1_CH3", 45 PE14 (io) "PE14/FSMC_D11/TIM1_CH4", 46 PE15 (io) "PE15/FSMC_D12/TIM1_BKIN", 47 PB10 (io) "PB10/I2C2_SCL/USART3_TX/TIM2_CH3/HDMI_CEC", 48 PB11 (io) "PB11/I2C2_SDA/USART3_RX/TIM2_CH4", 51 PB12 (io) "PB12/SPI2_NSS/I2C2_SMBA/USART3_CK/TIM1_BKIN/TIM12_CH1", 52 PB13 (io) "PB13/SPI2_SCK/USART3_CTS/TIM1_CH1N/TIM12_CH2", 53 PB14 (io) "PB14/SPI2_MISO/TIM1_CH2N/USART3_RTS/TIM15_CH1", 54 PB15 (io) "PB15/SPI2_MOSI/TIM1_CH3N/TIM15_CH1N/TIM15_CH2", 55 PD8 (io) "PD8/FSMC_D13/USART3_TX", 56 PD9 (io) "PD9/FSMC_D14/USART3_RX", 57 PD10 (io) "PD10/FSMC_D15/USART3_CK", 58 PD11 (io) "PD11/FSMC_A16/USART3_CTS", 59 PD12 (io) "PD12/FSMC_A17/TIM4_CH1/USART3_RTS", 60 PD13 (io) "PD13/FSMC_A18/TIM4_CH2", 61 PD14 (io) "PD14/FSMC_D0/TIM4_CH3", 62 PD15 (io) "PD15/FSMC_D1/TIM4_CH4", 63 PC6 (io) "PC6/TIM3_CH1", 64 PC7 (io) "PC7/TIM3_CH2", 65 PC8 (io) "PC8/TIM13_CH1/TIM3_CH3", 66 PC9 (io) "PC9/TIM14_CH1/TIM3_CH4", 67 PA8 (io) "PA8/USART1_CK/TIM1_CH1/MCO", 68 PA9 (io) "PA9/USART1_TX/TIM1_CH2/TIM15_BKIN", 69 PA10 (io) "PA10/USART1_RX/TIM1_CH3/TIM17_BKIN", 70 PA11 (io) "PA11/USART1_CTS/TIM1_CH4", 71 PA12 (io) "PA12/USART1_RTS/TIM1_ETR", 72 PA13 (io) "PA13/JTMS-SWDIO", 73 NC, 76 PA14 (io) "PA14/JTCK-SWCLK", 77 PA15 (io) "PA15/JTDI/SPI3_NSS/TIM2_CH1_ETR/SPI1_NSS", 78 PC10 (io) "PC10/UART4_TX/USART3_TX", 79 PC11 (io) "PC11/UART4_RX/USART3_RX", 80 PC12 (io) "PC12/UART5_TX/USART3_CK", 81 PD0 (io) "PD0/FSMC_D2", 82 PD1 (io) "PD1/FSMC_D3", 83 PD2 (io) "PD2/TIM3_ETR/UART5_RX", 84 PD3 (io) "PD3/FSMC_CLK/USART2_CTS", 85 PD4 (io) "PD4/FSMC_NOE/USART2_RTS", 86 PD5 (io) "PD5/FSMC_NWE/USART2_TX", 87 PD6 (io) "PD6/FSMC_NWAIT/USART2_RX", 88 PD7 (io) "PD7/FSMC_NE1/USART2_CK", 89 PB3 (io) "PB3/JTDO/SPI3_SCK/TRACESWO/TIM2_CH2/SPI1_SCK", 90 PB4 (io) "PB4/NJTRST/SPI3_MISO/TIM3_CH1/SPI1_MISO", 91 PB5 (io) "PB5/I2C1_SMBA/SPI3_MOSI/TIM16_BKIN/TIM3_CH2/SPI1_MOSI", 92 PB6 (io) "PB6/I2C1_SCL/TIM4_CH1/TIM16_CH1N/USART1_TX", 93 PB7 (io) "PB7/I2C1_SDA/FSMC_NADV/TIM4_CH2/TIM17_CH1N/USART1_RX", 94 BOOT0 (in), 95 PB8 (io) "PB8/TIM4_CH3/TIM16_CH1/HDMI_CEC/I2C1_SCL", 96 PB9 (io) "PB9/TIM4_CH4/TIM17_CH1/I2C1_SDA", 97 PE0 (io) "PE0/TIM4_ETR/FSMC_NBL0", 98 PE1 (io) "PE1/FSMC_NBL1"
part B pins: 6 VBAT (power), 10 VSS_5 (power), 11 VDD_5 (power), 19 VSSA (power), 20 VREF- (power), 21 VREF+ (power), 22 VDDA (power), 27 VSS_4 (power), 28 VDD_4 (power), 49 VSS_1 (power), 50 VDD_1 (power), 74 VSS_2 (power), 75 VDD_2 (power), 99 VSS_3 (power), 100 VDD_3 (power)

## STM32F100ZCT6B
designator U?
ARM Cortex-M3 32-bit MCU, 256 KB Flash, 24 KB Internal RAM, 112 I/Os, 144-pin LQFP, -40 to 85 degC, Tray
footprint STM-LQFP144_N (Thin QFP, 144-Leads, Body 20x20mm, Pitch 0.5mm, IPC Medium Density)
footprint STM-LQFP144_L (Thin QFP, 144-Leads, Body 20x20mm, Pitch 0.5mm, IPC High Density)
footprint STM-LQFP144_M (Thin QFP, 144-Leads, Body 20x20mm, Pitch 0.5mm, IPC Low Density)
footprint STM-LQFP144_V (Thin QFP, 144-Leads, Body 20x20mm, Pitch 0.5mm, ST Recommended)
part A pins: 7 PC13-TAMPER-RTC (io) "PC13-TAMPER-RTC/PC13/TAMPER-RTC", 8 PC14-OSC32_IN (io) "PC14-OSC32_IN/PC14/OSC32_IN", 9 PC15-OSC32_OUT (io) "PC15-OSC32_OUT/PC15/OSC32_OUT", 26 PC0 (io) "PC0/ADC_IN10", 27 PC1 (io) "PC1/ADC_IN11", 28 PC2 (io) "PC2/ADC_IN12", 29 PC3 (io) "PC3/ADC_IN13", 34 PA0-WKUP (io) "PA0-WKUP/PA0/WKUP/USART2_CTS/ADC_IN0/TIM2_CH1_ETR/TIM5_CH1", 35 PA1 (io) "PA1/USART2_RTS/ADC_IN1/TIM5_CH2/TIM2_CH2", 36 PA2 (io) "PA2/USART2_TX/TIM5_CH3/ADC_IN2/TIM15_CH1/TIM2_CH3", 37 PA3 (io) "PA3/USART2_RX/TIM5_CH4/ADC_IN3/TIM2_CH4/TIM15_CH2", 40 PA4 (io) "PA4/SPI1_NSS/USART2_CK/DAC_OUT1/ADC_IN4", 41 PA5 (io) "PA5/SPI1_SCK/DAC_OUT2/ADC_IN5", 42 PA6 (io) "PA6/SPI1_MISO/ADC_IN6/TIM3_CH1/TIM1_BKIN/TIM16_CH1", 43 PA7 (io) "PA7/SPI1_MOSI/ADC_IN7/TIM3_CH2/TIM1_CH1N/TIM17_CH1", 44 PC4 (io) "PC4/ADC_IN14/TIM12_CH1", 45 PC5 (io) "PC5/ADC_IN15/TIM12_CH2", 46 PB0 (io) "PB0/ADC_IN8/TIM3_CH3/TIM1_CH2N/TIM13_CH1", 47 PB1 (io) "PB1/ADC_IN9/TIM3_CH4/TIM1_CH3N/TIM14_CH1", 48 PB2 (io) "PB2/BOOT1", 69 PB10 (io) "PB10/I2C2_SCL/USART3_TX/TIM2_CH3/HDMI_CEC", 70 PB11 (io) "PB11/I2C2_SDA/USART3_RX/TIM2_CH4", 73 PB12 (io) "PB12/SPI2_NSS/I2C2_SMBA/USART3_CK/TIM1_BKIN/TIM12_CH1", 74 PB13 (io) "PB13/SPI2_SCK/USART3_CTS/TIM1_CH1N/TIM12_CH2", 75 PB14 (io) "PB14/SPI2_MISO/TIM1_CH2N/USART3_RTS/TIM15_CH1", 76 PB15 (io) "PB15/SPI2_MOSI/TIM1_CH3N/TIM15_CH1N/TIM15_CH2", 77 PD8 (io) "PD8/FSMC_D13/USART3_TX", 78 PD9 (io) "PD9/FSMC_D14/USART3_RX", 79 PD10 (io) "PD10/FSMC_D15/USART3_CK", 80 PD11 (io) "PD11/FSMC_A16/USART3_CTS", 81 PD12 (io) "PD12/FSMC_A17/TIM4_CH1/USART3_RTS", 82 PD13 (io) "PD13/FSMC_A18/TIM4_CH2", 85 PD14 (io) "PD14/FSMC_D0/TIM4_CH3", 86 PD15 (io) "PD15/FSMC_D1/TIM4_CH4", 96 PC6 (io) "PC6/TIM3_CH1", 97 PC7 (io) "PC7/TIM3_CH2", 98 PC8 (io) "PC8/TIM13_CH1/TIM3_CH3", 99 PC9 (io) "PC9/TIM14_CH1/TIM3_CH4", 100 PA8 (io) "PA8/USART1_CK/TIM1_CH1/MCO", 101 PA9 (io) "PA9/USART1_TX/TIM1_CH2/TIM15_BKIN", 102 PA10 (io) "PA10/USART1_RX/TIM1_CH3/TIM17_BKIN", 103 PA11 (io) "PA11/USART1_CTS/TIM1_CH4", 104 PA12 (io) "PA12/USART1_RTS/TIM1_ETR", 105 PA13 (io) "PA13/JTMS-SWDIO", 109 PA14 (io) "PA14/JTCK-SWCLK", 110 PA15 (io) "PA15/JTDI/SPI3_NSS/TIM2_CH1_ETR/SPI1_NSS", 111 PC10 (io) "PC10/UART4_TX/USART3_TX", 112 PC11 (io) "PC11/UART4_RX/USART3_RX", 113 PC12 (io) "PC12/UART5_TX/USART3_CK", 114 PD0 (io) "PD0/FSMC_D2", 115 PD1 (io) "PD1/FSMC_D3", 116 PD2 (io) "PD2/TIM3_ETR/UART5_RX", 117 PD3 (io) "PD3/FSMC_CLK/USART2_CTS", 118 PD4 (io) "PD4/FSMC_NOE/USART2_RTS", 119 PD5 (io) "PD5/FSMC_NWE/USART2_TX", 122 PD6 (io) "PD6/FSMC_NWAIT/USART2_RX", 123 PD7 (io) "PD7/FSMC_NE1/USART2_CK", 133 PB3 (io) "PB3/JTDO/SPI3_SCK/TRACESWO/TIM2_CH2/SPI1_SCK", 134 PB4 (io) "PB4/NJTRST/SPI3_MISO/TIM3_CH1/SPI1_MISO", 135 PB5 (io) "PB5/I2C1_SMBA/SPI3_MOSI/TIM16_BKIN/TIM3_CH2/SPI1_MOSI", 136 PB6 (io) "PB6/I2C1_SCL/TIM4_CH1/TIM16_CH1N/USART1_TX", 137 PB7 (io) "PB7/I2C1_SDA/FSMC_NADV/TIM4_CH2/TIM17_CH1N/USART1_RX", 139 PB8 (io) "PB8/TIM4_CH3/TIM16_CH1/HDMI_CEC/I2C1_SCL", 140 PB9 (io) "PB9/TIM4_CH4/TIM17_CH1/I2C1_SDA"
part B pins: 1 PE2 (io) "PE2/TRACECK/FSMC_A23", 2 PE3 (io) "PE3/TRACED0/FSMC_A19", 3 PE4 (io) "PE4/TRACED1/FSMC_A20", 4 PE5 (io) "PE5/TRACED2/FSMC_A21", 5 PE6 (io) "PE6/TRACED3/FSMC_A22", 10 PF0 (io) "PF0/FSMC_A0", 11 PF1 (io) "PF1/FSMC_A1", 12 PF2 (io) "PF2/FSMC_A2", 13 PF3 (io) "PF3/FSMC_A3", 14 PF4 (io) "PF4/FSMC_A4", 15 PF5 (io) "PF5/FSMC_A5", 18 PF6 (io), 19 PF7 (io), 20 PF8 (io), 21 PF9 (io), 22 PF10 (io), 23 OSC_IN (in), 24 OSC_OUT, 25 NRST (io), 49 PF11 (io), 50 PF12 (io) "PF12/FSMC_A6", 53 PF13 (io) "PF13/FSMC_A7", 54 PF14 (io) "PF14/FSMC_A8", 55 PF15 (io) "PF15/FSMC_A9", 56 PG0 (io) "OSC_OUT", 57 PG1 (io) "PG1/FSMC_A11", 58 PE7 (io) "PE7/FSMC_D4/TIM1_ETR", 59 PE8 (io) "PE8/FSMC_D5/TIM1_CH1N", 60 PE9 (io) "PE9/FSMC_D6/TIM1_CH1", 63 PE10 (io) "PE10/FSMC_D7/TIM1_CH2N", 64 PE11 (io) "PE11/FSMC_D8/TIM1_CH2", 65 PE12 (io) "PE12/FSMC_D9/TIM1_CH3N", 66 PE13 (io) "PE13/FSMC_D10/TIM1_CH3", 67 PE14 (io) "PE14/FSMC_D11/TIM1_CH4", 68 PE15 (io) "PE15/FSMC_D12/TIM1_BKIN", 87 PG2 (io) "PG2/FSMC_A12", 88 PG3 (io) "PG3/FSMC_A13", 89 PG4 (io) "PG4/FSMC_A14", 90 PG5 (io) "PG5/FSMC_A15", 91 PG6 (io), 92 PG7 (io), 93 PG8 (io), 106 NC, 124 PG9 (io) "PG9/FSMC_NE2", 125 PG10 (io) "PG10/FSMC_NE3", 126 PG11 (io), 127 PG12 (io) "PG12/FSMC_NE4", 128 PG13 (io) "PG13/FSMC_A24", 129 PG14 (io) "PG14/FSMC_A25", 132 PG15 (io), 138 BOOT0 (in), 141 PE0 (io) "PE0/TIM4_ETR/FSMC_NBL0", 142 PE1 (io) "PE1/FSMC_NBL1"
part C pins: 6 VBAT (power), 16 VSS_5 (power), 17 VDD_5 (power), 30 VSSA (power), 31 VREF- (power), 32 VREF+ (power), 33 VDDA (power), 38 VSS_4 (power), 39 VDD_4 (power), 51 VSS_6 (power), 52 VDD_6 (power), 61 VSS_7 (power), 62 VDD_7 (power), 71 VSS_1 (power), 72 VDD_1 (power), 83 VSS_8 (power), 84 VDD_8 (power), 94 VSS_9 (power), 95 VDD_9 (power), 107 VSS_2 (power), 108 VDD_2 (power), 120 VSS_10 (power), 121 VDD_10 (power), 130 VSS_11 (power), 131 VDD_11 (power), 143 VSS_3 (power), 144 VDD_3 (power)

## STM32F100ZDT6B
designator U?
ARM Cortex-M3 32-bit MCU, 384 KB Flash, 32 KB Internal RAM, 112 I/Os, 144-pin LQFP, -40 to 85 degC, Tray
footprint STM-LQFP144_N (Thin QFP, 144-Leads, Body 20x20mm, Pitch 0.5mm, IPC Medium Density)
footprint STM-LQFP144_L (Thin QFP, 144-Leads, Body 20x20mm, Pitch 0.5mm, IPC High Density)
footprint STM-LQFP144_M (Thin QFP, 144-Leads, Body 20x20mm, Pitch 0.5mm, IPC Low Density)
footprint STM-LQFP144_V (Thin QFP, 144-Leads, Body 20x20mm, Pitch 0.5mm, ST Recommended)
part A pins: 7 PC13-TAMPER-RTC (io) "PC13-TAMPER-RTC/PC13/TAMPER-RTC", 8 PC14-OSC32_IN (io) "PC14-OSC32_IN/PC14/OSC32_IN", 9 PC15-OSC32_OUT (io) "PC15-OSC32_OUT/PC15/OSC32_OUT", 26 PC0 (io) "PC0/ADC_IN10", 27 PC1 (io) "PC1/ADC_IN11", 28 PC2 (io) "PC2/ADC_IN12", 29 PC3 (io) "PC3/ADC_IN13", 34 PA0-WKUP (io) "PA0-WKUP/PA0/WKUP/USART2_CTS/ADC_IN0/TIM2_CH1_ETR/TIM5_CH1", 35 PA1 (io) "PA1/USART2_RTS/ADC_IN1/TIM5_CH2/TIM2_CH2", 36 PA2 (io) "PA2/USART2_TX/TIM5_CH3/ADC_IN2/TIM15_CH1/TIM2_CH3", 37 PA3 (io) "PA3/USART2_RX/TIM5_CH4/ADC_IN3/TIM2_CH4/TIM15_CH2", 40 PA4 (io) "PA4/SPI1_NSS/USART2_CK/DAC_OUT1/ADC_IN4", 41 PA5 (io) "PA5/SPI1_SCK/DAC_OUT2/ADC_IN5", 42 PA6 (io) "PA6/SPI1_MISO/ADC_IN6/TIM3_CH1/TIM1_BKIN/TIM16_CH1", 43 PA7 (io) "PA7/SPI1_MOSI/ADC_IN7/TIM3_CH2/TIM1_CH1N/TIM17_CH1", 44 PC4 (io) "PC4/ADC_IN14/TIM12_CH1", 45 PC5 (io) "PC5/ADC_IN15/TIM12_CH2", 46 PB0 (io) "PB0/ADC_IN8/TIM3_CH3/TIM1_CH2N/TIM13_CH1", 47 PB1 (io) "PB1/ADC_IN9/TIM3_CH4/TIM1_CH3N/TIM14_CH1", 48 PB2 (io) "PB2/BOOT1", 69 PB10 (io) "PB10/I2C2_SCL/USART3_TX/TIM2_CH3/HDMI_CEC", 70 PB11 (io) "PB11/I2C2_SDA/USART3_RX/TIM2_CH4", 73 PB12 (io) "PB12/SPI2_NSS/I2C2_SMBA/USART3_CK/TIM1_BKIN/TIM12_CH1", 74 PB13 (io) "PB13/SPI2_SCK/USART3_CTS/TIM1_CH1N/TIM12_CH2", 75 PB14 (io) "PB14/SPI2_MISO/TIM1_CH2N/USART3_RTS/TIM15_CH1", 76 PB15 (io) "PB15/SPI2_MOSI/TIM1_CH3N/TIM15_CH1N/TIM15_CH2", 77 PD8 (io) "PD8/FSMC_D13/USART3_TX", 78 PD9 (io) "PD9/FSMC_D14/USART3_RX", 79 PD10 (io) "PD10/FSMC_D15/USART3_CK", 80 PD11 (io) "PD11/FSMC_A16/USART3_CTS", 81 PD12 (io) "PD12/FSMC_A17/TIM4_CH1/USART3_RTS", 82 PD13 (io) "PD13/FSMC_A18/TIM4_CH2", 85 PD14 (io) "PD14/FSMC_D0/TIM4_CH3", 86 PD15 (io) "PD15/FSMC_D1/TIM4_CH4", 96 PC6 (io) "PC6/TIM3_CH1", 97 PC7 (io) "PC7/TIM3_CH2", 98 PC8 (io) "PC8/TIM13_CH1/TIM3_CH3", 99 PC9 (io) "PC9/TIM14_CH1/TIM3_CH4", 100 PA8 (io) "PA8/USART1_CK/TIM1_CH1/MCO", 101 PA9 (io) "PA9/USART1_TX/TIM1_CH2/TIM15_BKIN", 102 PA10 (io) "PA10/USART1_RX/TIM1_CH3/TIM17_BKIN", 103 PA11 (io) "PA11/USART1_CTS/TIM1_CH4", 104 PA12 (io) "PA12/USART1_RTS/TIM1_ETR", 105 PA13 (io) "PA13/JTMS-SWDIO", 109 PA14 (io) "PA14/JTCK-SWCLK", 110 PA15 (io) "PA15/JTDI/SPI3_NSS/TIM2_CH1_ETR/SPI1_NSS", 111 PC10 (io) "PC10/UART4_TX/USART3_TX", 112 PC11 (io) "PC11/UART4_RX/USART3_RX", 113 PC12 (io) "PC12/UART5_TX/USART3_CK", 114 PD0 (io) "PD0/FSMC_D2", 115 PD1 (io) "PD1/FSMC_D3", 116 PD2 (io) "PD2/TIM3_ETR/UART5_RX", 117 PD3 (io) "PD3/FSMC_CLK/USART2_CTS", 118 PD4 (io) "PD4/FSMC_NOE/USART2_RTS", 119 PD5 (io) "PD5/FSMC_NWE/USART2_TX", 122 PD6 (io) "PD6/FSMC_NWAIT/USART2_RX", 123 PD7 (io) "PD7/FSMC_NE1/USART2_CK", 133 PB3 (io) "PB3/JTDO/SPI3_SCK/TRACESWO/TIM2_CH2/SPI1_SCK", 134 PB4 (io) "PB4/NJTRST/SPI3_MISO/TIM3_CH1/SPI1_MISO", 135 PB5 (io) "PB5/I2C1_SMBA/SPI3_MOSI/TIM16_BKIN/TIM3_CH2/SPI1_MOSI", 136 PB6 (io) "PB6/I2C1_SCL/TIM4_CH1/TIM16_CH1N/USART1_TX", 137 PB7 (io) "PB7/I2C1_SDA/FSMC_NADV/TIM4_CH2/TIM17_CH1N/USART1_RX", 139 PB8 (io) "PB8/TIM4_CH3/TIM16_CH1/HDMI_CEC/I2C1_SCL", 140 PB9 (io) "PB9/TIM4_CH4/TIM17_CH1/I2C1_SDA"
part B pins: 1 PE2 (io) "PE2/TRACECK/FSMC_A23", 2 PE3 (io) "PE3/TRACED0/FSMC_A19", 3 PE4 (io) "PE4/TRACED1/FSMC_A20", 4 PE5 (io) "PE5/TRACED2/FSMC_A21", 5 PE6 (io) "PE6/TRACED3/FSMC_A22", 10 PF0 (io) "PF0/FSMC_A0", 11 PF1 (io) "PF1/FSMC_A1", 12 PF2 (io) "PF2/FSMC_A2", 13 PF3 (io) "PF3/FSMC_A3", 14 PF4 (io) "PF4/FSMC_A4", 15 PF5 (io) "PF5/FSMC_A5", 18 PF6 (io), 19 PF7 (io), 20 PF8 (io), 21 PF9 (io), 22 PF10 (io), 23 OSC_IN (in), 24 OSC_OUT, 25 NRST (io), 49 PF11 (io), 50 PF12 (io) "PF12/FSMC_A6", 53 PF13 (io) "PF13/FSMC_A7", 54 PF14 (io) "PF14/FSMC_A8", 55 PF15 (io) "PF15/FSMC_A9", 56 PG0 (io) "OSC_OUT", 57 PG1 (io) "PG1/FSMC_A11", 58 PE7 (io) "PE7/FSMC_D4/TIM1_ETR", 59 PE8 (io) "PE8/FSMC_D5/TIM1_CH1N", 60 PE9 (io) "PE9/FSMC_D6/TIM1_CH1", 63 PE10 (io) "PE10/FSMC_D7/TIM1_CH2N", 64 PE11 (io) "PE11/FSMC_D8/TIM1_CH2", 65 PE12 (io) "PE12/FSMC_D9/TIM1_CH3N", 66 PE13 (io) "PE13/FSMC_D10/TIM1_CH3", 67 PE14 (io) "PE14/FSMC_D11/TIM1_CH4", 68 PE15 (io) "PE15/FSMC_D12/TIM1_BKIN", 87 PG2 (io) "PG2/FSMC_A12", 88 PG3 (io) "PG3/FSMC_A13", 89 PG4 (io) "PG4/FSMC_A14", 90 PG5 (io) "PG5/FSMC_A15", 91 PG6 (io), 92 PG7 (io), 93 PG8 (io), 106 NC, 124 PG9 (io) "PG9/FSMC_NE2", 125 PG10 (io) "PG10/FSMC_NE3", 126 PG11 (io), 127 PG12 (io) "PG12/FSMC_NE4", 128 PG13 (io) "PG13/FSMC_A24", 129 PG14 (io) "PG14/FSMC_A25", 132 PG15 (io), 138 BOOT0 (in), 141 PE0 (io) "PE0/TIM4_ETR/FSMC_NBL0", 142 PE1 (io) "PE1/FSMC_NBL1"
part C pins: 6 VBAT (power), 16 VSS_5 (power), 17 VDD_5 (power), 30 VSSA (power), 31 VREF- (power), 32 VREF+ (power), 33 VDDA (power), 38 VSS_4 (power), 39 VDD_4 (power), 51 VSS_6 (power), 52 VDD_6 (power), 61 VSS_7 (power), 62 VDD_7 (power), 71 VSS_1 (power), 72 VDD_1 (power), 83 VSS_8 (power), 84 VDD_8 (power), 94 VSS_9 (power), 95 VDD_9 (power), 107 VSS_2 (power), 108 VDD_2 (power), 120 VSS_10 (power), 121 VDD_10 (power), 130 VSS_11 (power), 131 VDD_11 (power), 143 VSS_3 (power), 144 VDD_3 (power)

## STM32F100ZET6B
designator U?
ARM Cortex-M3 32-bit MCU, 512 KB Flash, 32 KB Internal RAM, 112 I/Os, 144-pin LQFP, -40 to 85 degC, Tray
footprint STM-LQFP144_N (Thin QFP, 144-Leads, Body 20x20mm, Pitch 0.5mm, IPC Medium Density)
footprint STM-LQFP144_L (Thin QFP, 144-Leads, Body 20x20mm, Pitch 0.5mm, IPC High Density)
footprint STM-LQFP144_M (Thin QFP, 144-Leads, Body 20x20mm, Pitch 0.5mm, IPC Low Density)
footprint STM-LQFP144_V (Thin QFP, 144-Leads, Body 20x20mm, Pitch 0.5mm, ST Recommended)
part A pins: 7 PC13-TAMPER-RTC (io) "PC13-TAMPER-RTC/PC13/TAMPER-RTC", 8 PC14-OSC32_IN (io) "PC14-OSC32_IN/PC14/OSC32_IN", 9 PC15-OSC32_OUT (io) "PC15-OSC32_OUT/PC15/OSC32_OUT", 26 PC0 (io) "PC0/ADC_IN10", 27 PC1 (io) "PC1/ADC_IN11", 28 PC2 (io) "PC2/ADC_IN12", 29 PC3 (io) "PC3/ADC_IN13", 34 PA0-WKUP (io) "PA0-WKUP/PA0/WKUP/USART2_CTS/ADC_IN0/TIM2_CH1_ETR/TIM5_CH1", 35 PA1 (io) "PA1/USART2_RTS/ADC_IN1/TIM5_CH2/TIM2_CH2", 36 PA2 (io) "PA2/USART2_TX/TIM5_CH3/ADC_IN2/TIM15_CH1/TIM2_CH3", 37 PA3 (io) "PA3/USART2_RX/TIM5_CH4/ADC_IN3/TIM2_CH4/TIM15_CH2", 40 PA4 (io) "PA4/SPI1_NSS/USART2_CK/DAC_OUT1/ADC_IN4", 41 PA5 (io) "PA5/SPI1_SCK/DAC_OUT2/ADC_IN5", 42 PA6 (io) "PA6/SPI1_MISO/ADC_IN6/TIM3_CH1/TIM1_BKIN/TIM16_CH1", 43 PA7 (io) "PA7/SPI1_MOSI/ADC_IN7/TIM3_CH2/TIM1_CH1N/TIM17_CH1", 44 PC4 (io) "PC4/ADC_IN14/TIM12_CH1", 45 PC5 (io) "PC5/ADC_IN15/TIM12_CH2", 46 PB0 (io) "PB0/ADC_IN8/TIM3_CH3/TIM1_CH2N/TIM13_CH1", 47 PB1 (io) "PB1/ADC_IN9/TIM3_CH4/TIM1_CH3N/TIM14_CH1", 48 PB2 (io) "PB2/BOOT1", 69 PB10 (io) "PB10/I2C2_SCL/USART3_TX/TIM2_CH3/HDMI_CEC", 70 PB11 (io) "PB11/I2C2_SDA/USART3_RX/TIM2_CH4", 73 PB12 (io) "PB12/SPI2_NSS/I2C2_SMBA/USART3_CK/TIM1_BKIN/TIM12_CH1", 74 PB13 (io) "PB13/SPI2_SCK/USART3_CTS/TIM1_CH1N/TIM12_CH2", 75 PB14 (io) "PB14/SPI2_MISO/TIM1_CH2N/USART3_RTS/TIM15_CH1", 76 PB15 (io) "PB15/SPI2_MOSI/TIM1_CH3N/TIM15_CH1N/TIM15_CH2", 77 PD8 (io) "PD8/FSMC_D13/USART3_TX", 78 PD9 (io) "PD9/FSMC_D14/USART3_RX", 79 PD10 (io) "PD10/FSMC_D15/USART3_CK", 80 PD11 (io) "PD11/FSMC_A16/USART3_CTS", 81 PD12 (io) "PD12/FSMC_A17/TIM4_CH1/USART3_RTS", 82 PD13 (io) "PD13/FSMC_A18/TIM4_CH2", 85 PD14 (io) "PD14/FSMC_D0/TIM4_CH3", 86 PD15 (io) "PD15/FSMC_D1/TIM4_CH4", 96 PC6 (io) "PC6/TIM3_CH1", 97 PC7 (io) "PC7/TIM3_CH2", 98 PC8 (io) "PC8/TIM13_CH1/TIM3_CH3", 99 PC9 (io) "PC9/TIM14_CH1/TIM3_CH4", 100 PA8 (io) "PA8/USART1_CK/TIM1_CH1/MCO", 101 PA9 (io) "PA9/USART1_TX/TIM1_CH2/TIM15_BKIN", 102 PA10 (io) "PA10/USART1_RX/TIM1_CH3/TIM17_BKIN", 103 PA11 (io) "PA11/USART1_CTS/TIM1_CH4", 104 PA12 (io) "PA12/USART1_RTS/TIM1_ETR", 105 PA13 (io) "PA13/JTMS-SWDIO", 109 PA14 (io) "PA14/JTCK-SWCLK", 110 PA15 (io) "PA15/JTDI/SPI3_NSS/TIM2_CH1_ETR/SPI1_NSS", 111 PC10 (io) "PC10/UART4_TX/USART3_TX", 112 PC11 (io) "PC11/UART4_RX/USART3_RX", 113 PC12 (io) "PC12/UART5_TX/USART3_CK", 114 PD0 (io) "PD0/FSMC_D2", 115 PD1 (io) "PD1/FSMC_D3", 116 PD2 (io) "PD2/TIM3_ETR/UART5_RX", 117 PD3 (io) "PD3/FSMC_CLK/USART2_CTS", 118 PD4 (io) "PD4/FSMC_NOE/USART2_RTS", 119 PD5 (io) "PD5/FSMC_NWE/USART2_TX", 122 PD6 (io) "PD6/FSMC_NWAIT/USART2_RX", 123 PD7 (io) "PD7/FSMC_NE1/USART2_CK", 133 PB3 (io) "PB3/JTDO/SPI3_SCK/TRACESWO/TIM2_CH2/SPI1_SCK", 134 PB4 (io) "PB4/NJTRST/SPI3_MISO/TIM3_CH1/SPI1_MISO", 135 PB5 (io) "PB5/I2C1_SMBA/SPI3_MOSI/TIM16_BKIN/TIM3_CH2/SPI1_MOSI", 136 PB6 (io) "PB6/I2C1_SCL/TIM4_CH1/TIM16_CH1N/USART1_TX", 137 PB7 (io) "PB7/I2C1_SDA/FSMC_NADV/TIM4_CH2/TIM17_CH1N/USART1_RX", 139 PB8 (io) "PB8/TIM4_CH3/TIM16_CH1/HDMI_CEC/I2C1_SCL", 140 PB9 (io) "PB9/TIM4_CH4/TIM17_CH1/I2C1_SDA"
part B pins: 1 PE2 (io) "PE2/TRACECK/FSMC_A23", 2 PE3 (io) "PE3/TRACED0/FSMC_A19", 3 PE4 (io) "PE4/TRACED1/FSMC_A20", 4 PE5 (io) "PE5/TRACED2/FSMC_A21", 5 PE6 (io) "PE6/TRACED3/FSMC_A22", 10 PF0 (io) "PF0/FSMC_A0", 11 PF1 (io) "PF1/FSMC_A1", 12 PF2 (io) "PF2/FSMC_A2", 13 PF3 (io) "PF3/FSMC_A3", 14 PF4 (io) "PF4/FSMC_A4", 15 PF5 (io) "PF5/FSMC_A5", 18 PF6 (io), 19 PF7 (io), 20 PF8 (io), 21 PF9 (io), 22 PF10 (io), 23 OSC_IN (in), 24 OSC_OUT, 25 NRST (io), 49 PF11 (io), 50 PF12 (io) "PF12/FSMC_A6", 53 PF13 (io) "PF13/FSMC_A7", 54 PF14 (io) "PF14/FSMC_A8", 55 PF15 (io) "PF15/FSMC_A9", 56 PG0 (io) "OSC_OUT", 57 PG1 (io) "PG1/FSMC_A11", 58 PE7 (io) "PE7/FSMC_D4/TIM1_ETR", 59 PE8 (io) "PE8/FSMC_D5/TIM1_CH1N", 60 PE9 (io) "PE9/FSMC_D6/TIM1_CH1", 63 PE10 (io) "PE10/FSMC_D7/TIM1_CH2N", 64 PE11 (io) "PE11/FSMC_D8/TIM1_CH2", 65 PE12 (io) "PE12/FSMC_D9/TIM1_CH3N", 66 PE13 (io) "PE13/FSMC_D10/TIM1_CH3", 67 PE14 (io) "PE14/FSMC_D11/TIM1_CH4", 68 PE15 (io) "PE15/FSMC_D12/TIM1_BKIN", 87 PG2 (io) "PG2/FSMC_A12", 88 PG3 (io) "PG3/FSMC_A13", 89 PG4 (io) "PG4/FSMC_A14", 90 PG5 (io) "PG5/FSMC_A15", 91 PG6 (io), 92 PG7 (io), 93 PG8 (io), 106 NC, 124 PG9 (io) "PG9/FSMC_NE2", 125 PG10 (io) "PG10/FSMC_NE3", 126 PG11 (io), 127 PG12 (io) "PG12/FSMC_NE4", 128 PG13 (io) "PG13/FSMC_A24", 129 PG14 (io) "PG14/FSMC_A25", 132 PG15 (io), 138 BOOT0 (in), 141 PE0 (io) "PE0/TIM4_ETR/FSMC_NBL0", 142 PE1 (io) "PE1/FSMC_NBL1"
part C pins: 6 VBAT (power), 16 VSS_5 (power), 17 VDD_5 (power), 30 VSSA (power), 31 VREF- (power), 32 VREF+ (power), 33 VDDA (power), 38 VSS_4 (power), 39 VDD_4 (power), 51 VSS_6 (power), 52 VDD_6 (power), 61 VSS_7 (power), 62 VDD_7 (power), 71 VSS_1 (power), 72 VDD_1 (power), 83 VSS_8 (power), 84 VDD_8 (power), 94 VSS_9 (power), 95 VDD_9 (power), 107 VSS_2 (power), 108 VDD_2 (power), 120 VSS_10 (power), 121 VDD_10 (power), 130 VSS_11 (power), 131 VDD_11 (power), 143 VSS_3 (power), 144 VDD_3 (power)

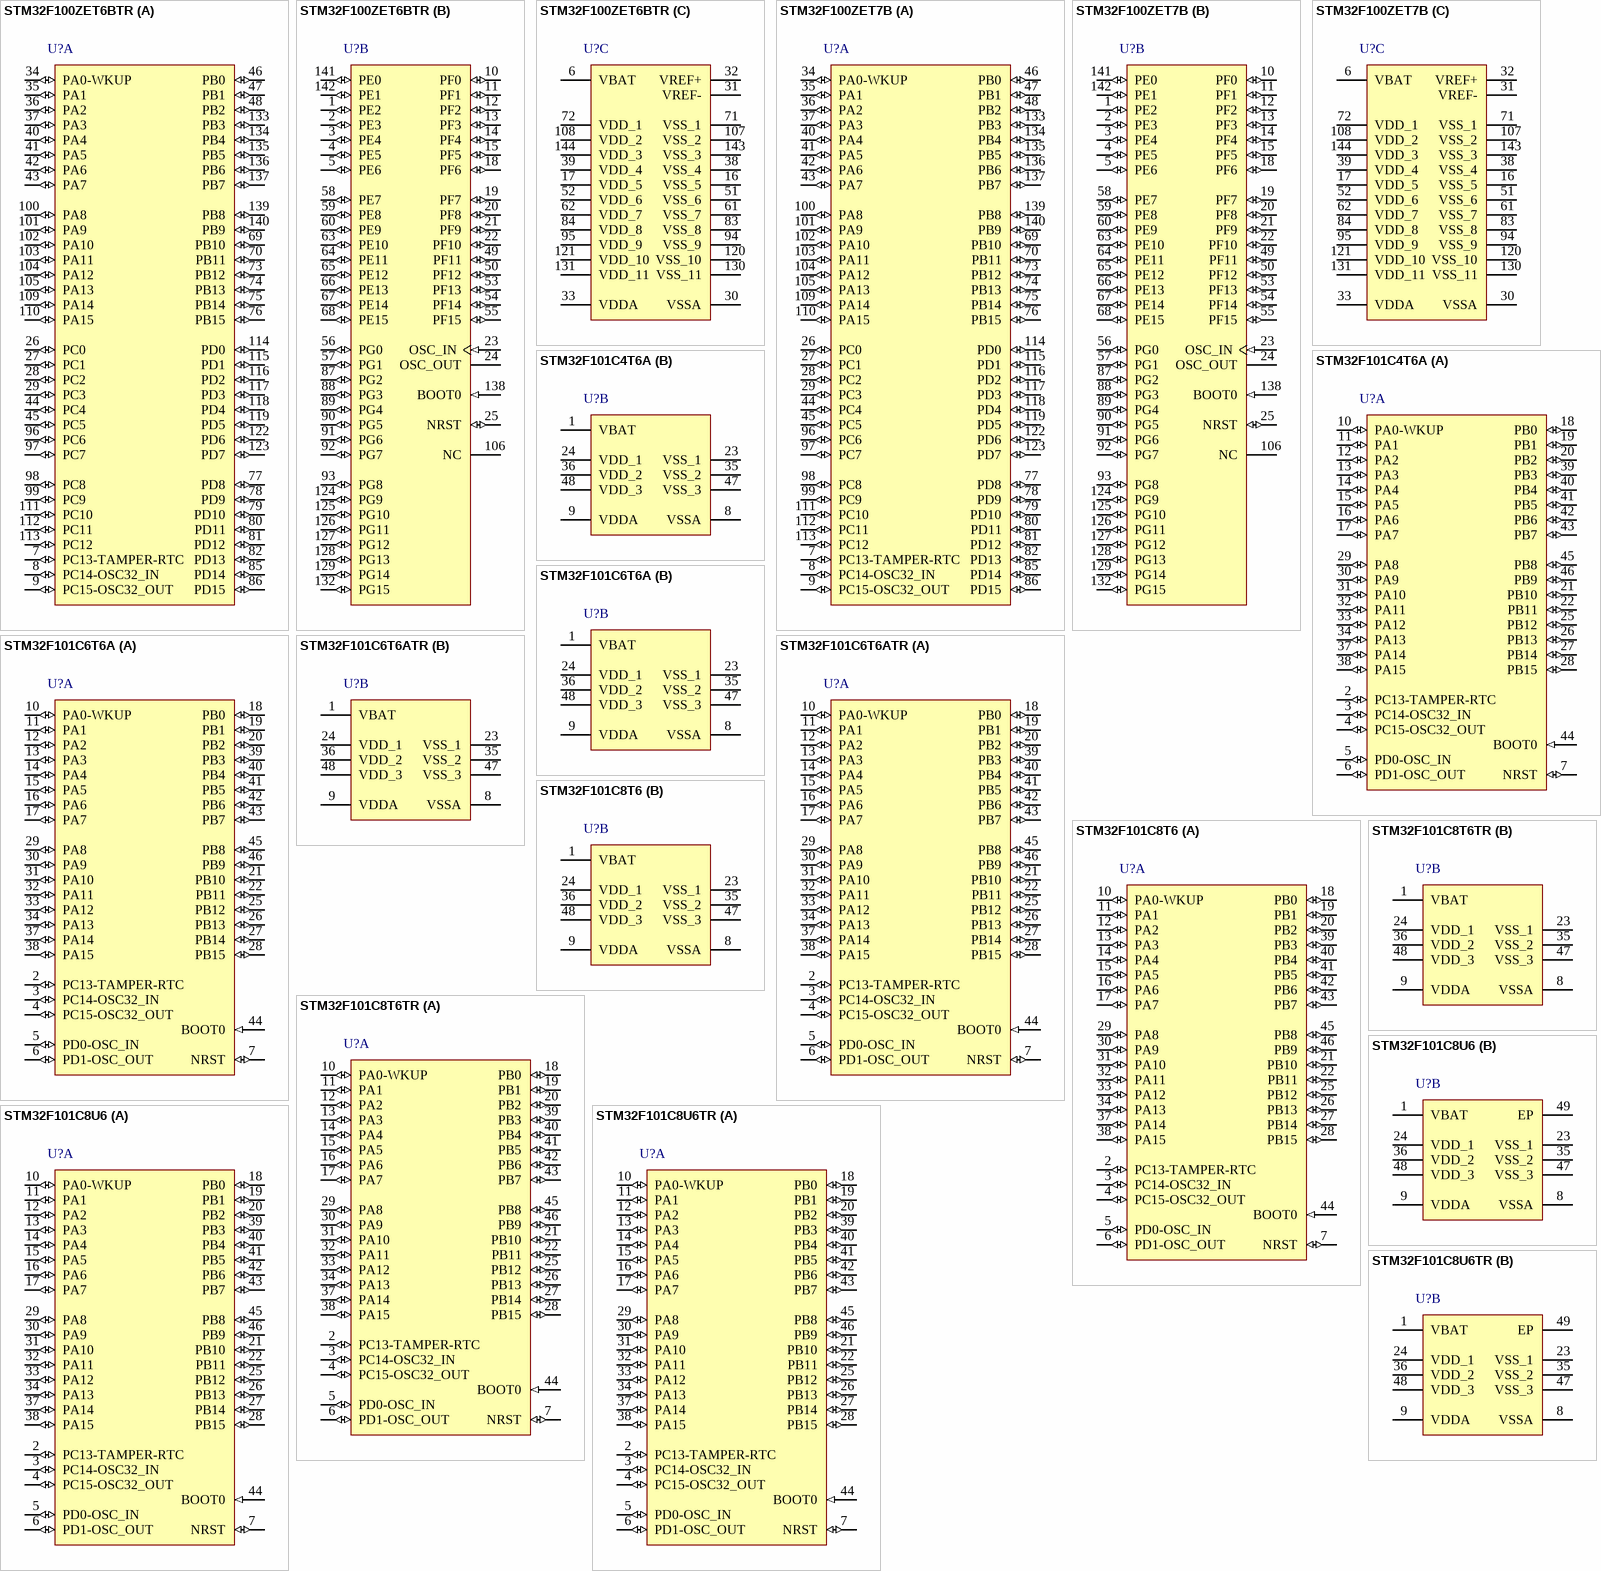
[diagram p9: symbols STM32F100ZET6BTR to STM32F101C8U6TR]

## STM32F100ZET6BTR
designator U?
ARM Cortex-M3 32-bit MCU, 512 KB Flash, 32 KB Internal RAM, 112 I/Os, 144-pin LQFP, -40 to 85 degC, Tape and Reel
footprint STM-LQFP144_N (Thin QFP, 144-Leads, Body 20x20mm, Pitch 0.5mm, IPC Medium Density)
footprint STM-LQFP144_L (Thin QFP, 144-Leads, Body 20x20mm, Pitch 0.5mm, IPC High Density)
footprint STM-LQFP144_M (Thin QFP, 144-Leads, Body 20x20mm, Pitch 0.5mm, IPC Low Density)
footprint STM-LQFP144_V (Thin QFP, 144-Leads, Body 20x20mm, Pitch 0.5mm, ST Recommended)
part A pins: 7 PC13-TAMPER-RTC (io) "PC13-TAMPER-RTC/PC13/TAMPER-RTC", 8 PC14-OSC32_IN (io) "PC14-OSC32_IN/PC14/OSC32_IN", 9 PC15-OSC32_OUT (io) "PC15-OSC32_OUT/PC15/OSC32_OUT", 26 PC0 (io) "PC0/ADC_IN10", 27 PC1 (io) "PC1/ADC_IN11", 28 PC2 (io) "PC2/ADC_IN12", 29 PC3 (io) "PC3/ADC_IN13", 34 PA0-WKUP (io) "PA0-WKUP/PA0/WKUP/USART2_CTS/ADC_IN0/TIM2_CH1_ETR/TIM5_CH1", 35 PA1 (io) "PA1/USART2_RTS/ADC_IN1/TIM5_CH2/TIM2_CH2", 36 PA2 (io) "PA2/USART2_TX/TIM5_CH3/ADC_IN2/TIM15_CH1/TIM2_CH3", 37 PA3 (io) "PA3/USART2_RX/TIM5_CH4/ADC_IN3/TIM2_CH4/TIM15_CH2", 40 PA4 (io) "PA4/SPI1_NSS/USART2_CK/DAC_OUT1/ADC_IN4", 41 PA5 (io) "PA5/SPI1_SCK/DAC_OUT2/ADC_IN5", 42 PA6 (io) "PA6/SPI1_MISO/ADC_IN6/TIM3_CH1/TIM1_BKIN/TIM16_CH1", 43 PA7 (io) "PA7/SPI1_MOSI/ADC_IN7/TIM3_CH2/TIM1_CH1N/TIM17_CH1", 44 PC4 (io) "PC4/ADC_IN14/TIM12_CH1", 45 PC5 (io) "PC5/ADC_IN15/TIM12_CH2", 46 PB0 (io) "PB0/ADC_IN8/TIM3_CH3/TIM1_CH2N/TIM13_CH1", 47 PB1 (io) "PB1/ADC_IN9/TIM3_CH4/TIM1_CH3N/TIM14_CH1", 48 PB2 (io) "PB2/BOOT1", 69 PB10 (io) "PB10/I2C2_SCL/USART3_TX/TIM2_CH3/HDMI_CEC", 70 PB11 (io) "PB11/I2C2_SDA/USART3_RX/TIM2_CH4", 73 PB12 (io) "PB12/SPI2_NSS/I2C2_SMBA/USART3_CK/TIM1_BKIN/TIM12_CH1", 74 PB13 (io) "PB13/SPI2_SCK/USART3_CTS/TIM1_CH1N/TIM12_CH2", 75 PB14 (io) "PB14/SPI2_MISO/TIM1_CH2N/USART3_RTS/TIM15_CH1", 76 PB15 (io) "PB15/SPI2_MOSI/TIM1_CH3N/TIM15_CH1N/TIM15_CH2", 77 PD8 (io) "PD8/FSMC_D13/USART3_TX", 78 PD9 (io) "PD9/FSMC_D14/USART3_RX", 79 PD10 (io) "PD10/FSMC_D15/USART3_CK", 80 PD11 (io) "PD11/FSMC_A16/USART3_CTS", 81 PD12 (io) "PD12/FSMC_A17/TIM4_CH1/USART3_RTS", 82 PD13 (io) "PD13/FSMC_A18/TIM4_CH2", 85 PD14 (io) "PD14/FSMC_D0/TIM4_CH3", 86 PD15 (io) "PD15/FSMC_D1/TIM4_CH4", 96 PC6 (io) "PC6/TIM3_CH1", 97 PC7 (io) "PC7/TIM3_CH2", 98 PC8 (io) "PC8/TIM13_CH1/TIM3_CH3", 99 PC9 (io) "PC9/TIM14_CH1/TIM3_CH4", 100 PA8 (io) "PA8/USART1_CK/TIM1_CH1/MCO", 101 PA9 (io) "PA9/USART1_TX/TIM1_CH2/TIM15_BKIN", 102 PA10 (io) "PA10/USART1_RX/TIM1_CH3/TIM17_BKIN", 103 PA11 (io) "PA11/USART1_CTS/TIM1_CH4", 104 PA12 (io) "PA12/USART1_RTS/TIM1_ETR", 105 PA13 (io) "PA13/JTMS-SWDIO", 109 PA14 (io) "PA14/JTCK-SWCLK", 110 PA15 (io) "PA15/JTDI/SPI3_NSS/TIM2_CH1_ETR/SPI1_NSS", 111 PC10 (io) "PC10/UART4_TX/USART3_TX", 112 PC11 (io) "PC11/UART4_RX/USART3_RX", 113 PC12 (io) "PC12/UART5_TX/USART3_CK", 114 PD0 (io) "PD0/FSMC_D2", 115 PD1 (io) "PD1/FSMC_D3", 116 PD2 (io) "PD2/TIM3_ETR/UART5_RX", 117 PD3 (io) "PD3/FSMC_CLK/USART2_CTS", 118 PD4 (io) "PD4/FSMC_NOE/USART2_RTS", 119 PD5 (io) "PD5/FSMC_NWE/USART2_TX", 122 PD6 (io) "PD6/FSMC_NWAIT/USART2_RX", 123 PD7 (io) "PD7/FSMC_NE1/USART2_CK", 133 PB3 (io) "PB3/JTDO/SPI3_SCK/TRACESWO/TIM2_CH2/SPI1_SCK", 134 PB4 (io) "PB4/NJTRST/SPI3_MISO/TIM3_CH1/SPI1_MISO", 135 PB5 (io) "PB5/I2C1_SMBA/SPI3_MOSI/TIM16_BKIN/TIM3_CH2/SPI1_MOSI", 136 PB6 (io) "PB6/I2C1_SCL/TIM4_CH1/TIM16_CH1N/USART1_TX", 137 PB7 (io) "PB7/I2C1_SDA/FSMC_NADV/TIM4_CH2/TIM17_CH1N/USART1_RX", 139 PB8 (io) "PB8/TIM4_CH3/TIM16_CH1/HDMI_CEC/I2C1_SCL", 140 PB9 (io) "PB9/TIM4_CH4/TIM17_CH1/I2C1_SDA"
part B pins: 1 PE2 (io) "PE2/TRACECK/FSMC_A23", 2 PE3 (io) "PE3/TRACED0/FSMC_A19", 3 PE4 (io) "PE4/TRACED1/FSMC_A20", 4 PE5 (io) "PE5/TRACED2/FSMC_A21", 5 PE6 (io) "PE6/TRACED3/FSMC_A22", 10 PF0 (io) "PF0/FSMC_A0", 11 PF1 (io) "PF1/FSMC_A1", 12 PF2 (io) "PF2/FSMC_A2", 13 PF3 (io) "PF3/FSMC_A3", 14 PF4 (io) "PF4/FSMC_A4", 15 PF5 (io) "PF5/FSMC_A5", 18 PF6 (io), 19 PF7 (io), 20 PF8 (io), 21 PF9 (io), 22 PF10 (io), 23 OSC_IN (in), 24 OSC_OUT, 25 NRST (io), 49 PF11 (io), 50 PF12 (io) "PF12/FSMC_A6", 53 PF13 (io) "PF13/FSMC_A7", 54 PF14 (io) "PF14/FSMC_A8", 55 PF15 (io) "PF15/FSMC_A9", 56 PG0 (io) "OSC_OUT", 57 PG1 (io) "PG1/FSMC_A11", 58 PE7 (io) "PE7/FSMC_D4/TIM1_ETR", 59 PE8 (io) "PE8/FSMC_D5/TIM1_CH1N", 60 PE9 (io) "PE9/FSMC_D6/TIM1_CH1", 63 PE10 (io) "PE10/FSMC_D7/TIM1_CH2N", 64 PE11 (io) "PE11/FSMC_D8/TIM1_CH2", 65 PE12 (io) "PE12/FSMC_D9/TIM1_CH3N", 66 PE13 (io) "PE13/FSMC_D10/TIM1_CH3", 67 PE14 (io) "PE14/FSMC_D11/TIM1_CH4", 68 PE15 (io) "PE15/FSMC_D12/TIM1_BKIN", 87 PG2 (io) "PG2/FSMC_A12", 88 PG3 (io) "PG3/FSMC_A13", 89 PG4 (io) "PG4/FSMC_A14", 90 PG5 (io) "PG5/FSMC_A15", 91 PG6 (io), 92 PG7 (io), 93 PG8 (io), 106 NC, 124 PG9 (io) "PG9/FSMC_NE2", 125 PG10 (io) "PG10/FSMC_NE3", 126 PG11 (io), 127 PG12 (io) "PG12/FSMC_NE4", 128 PG13 (io) "PG13/FSMC_A24", 129 PG14 (io) "PG14/FSMC_A25", 132 PG15 (io), 138 BOOT0 (in), 141 PE0 (io) "PE0/TIM4_ETR/FSMC_NBL0", 142 PE1 (io) "PE1/FSMC_NBL1"
part C pins: 6 VBAT (power), 16 VSS_5 (power), 17 VDD_5 (power), 30 VSSA (power), 31 VREF- (power), 32 VREF+ (power), 33 VDDA (power), 38 VSS_4 (power), 39 VDD_4 (power), 51 VSS_6 (power), 52 VDD_6 (power), 61 VSS_7 (power), 62 VDD_7 (power), 71 VSS_1 (power), 72 VDD_1 (power), 83 VSS_8 (power), 84 VDD_8 (power), 94 VSS_9 (power), 95 VDD_9 (power), 107 VSS_2 (power), 108 VDD_2 (power), 120 VSS_10 (power), 121 VDD_10 (power), 130 VSS_11 (power), 131 VDD_11 (power), 143 VSS_3 (power), 144 VDD_3 (power)

## STM32F100ZET7B
designator U?
ARM Cortex-M3 32-bit MCU, 512 KB Flash, 32 KB Internal RAM, 112 I/Os, 144-pin LQFP, -40 to 105 degC, Tray
footprint STM-LQFP144_N (Thin QFP, 144-Leads, Body 20x20mm, Pitch 0.5mm, IPC Medium Density)
footprint STM-LQFP144_L (Thin QFP, 144-Leads, Body 20x20mm, Pitch 0.5mm, IPC High Density)
footprint STM-LQFP144_M (Thin QFP, 144-Leads, Body 20x20mm, Pitch 0.5mm, IPC Low Density)
footprint STM-LQFP144_V (Thin QFP, 144-Leads, Body 20x20mm, Pitch 0.5mm, ST Recommended)
part A pins: 7 PC13-TAMPER-RTC (io) "PC13-TAMPER-RTC/PC13/TAMPER-RTC", 8 PC14-OSC32_IN (io) "PC14-OSC32_IN/PC14/OSC32_IN", 9 PC15-OSC32_OUT (io) "PC15-OSC32_OUT/PC15/OSC32_OUT", 26 PC0 (io) "PC0/ADC_IN10", 27 PC1 (io) "PC1/ADC_IN11", 28 PC2 (io) "PC2/ADC_IN12", 29 PC3 (io) "PC3/ADC_IN13", 34 PA0-WKUP (io) "PA0-WKUP/PA0/WKUP/USART2_CTS/ADC_IN0/TIM2_CH1_ETR/TIM5_CH1", 35 PA1 (io) "PA1/USART2_RTS/ADC_IN1/TIM5_CH2/TIM2_CH2", 36 PA2 (io) "PA2/USART2_TX/TIM5_CH3/ADC_IN2/TIM15_CH1/TIM2_CH3", 37 PA3 (io) "PA3/USART2_RX/TIM5_CH4/ADC_IN3/TIM2_CH4/TIM15_CH2", 40 PA4 (io) "PA4/SPI1_NSS/USART2_CK/DAC_OUT1/ADC_IN4", 41 PA5 (io) "PA5/SPI1_SCK/DAC_OUT2/ADC_IN5", 42 PA6 (io) "PA6/SPI1_MISO/ADC_IN6/TIM3_CH1/TIM1_BKIN/TIM16_CH1", 43 PA7 (io) "PA7/SPI1_MOSI/ADC_IN7/TIM3_CH2/TIM1_CH1N/TIM17_CH1", 44 PC4 (io) "PC4/ADC_IN14/TIM12_CH1", 45 PC5 (io) "PC5/ADC_IN15/TIM12_CH2", 46 PB0 (io) "PB0/ADC_IN8/TIM3_CH3/TIM1_CH2N/TIM13_CH1", 47 PB1 (io) "PB1/ADC_IN9/TIM3_CH4/TIM1_CH3N/TIM14_CH1", 48 PB2 (io) "PB2/BOOT1", 69 PB10 (io) "PB10/I2C2_SCL/USART3_TX/TIM2_CH3/HDMI_CEC", 70 PB11 (io) "PB11/I2C2_SDA/USART3_RX/TIM2_CH4", 73 PB12 (io) "PB12/SPI2_NSS/I2C2_SMBA/USART3_CK/TIM1_BKIN/TIM12_CH1", 74 PB13 (io) "PB13/SPI2_SCK/USART3_CTS/TIM1_CH1N/TIM12_CH2", 75 PB14 (io) "PB14/SPI2_MISO/TIM1_CH2N/USART3_RTS/TIM15_CH1", 76 PB15 (io) "PB15/SPI2_MOSI/TIM1_CH3N/TIM15_CH1N/TIM15_CH2", 77 PD8 (io) "PD8/FSMC_D13/USART3_TX", 78 PD9 (io) "PD9/FSMC_D14/USART3_RX", 79 PD10 (io) "PD10/FSMC_D15/USART3_CK", 80 PD11 (io) "PD11/FSMC_A16/USART3_CTS", 81 PD12 (io) "PD12/FSMC_A17/TIM4_CH1/USART3_RTS", 82 PD13 (io) "PD13/FSMC_A18/TIM4_CH2", 85 PD14 (io) "PD14/FSMC_D0/TIM4_CH3", 86 PD15 (io) "PD15/FSMC_D1/TIM4_CH4", 96 PC6 (io) "PC6/TIM3_CH1", 97 PC7 (io) "PC7/TIM3_CH2", 98 PC8 (io) "PC8/TIM13_CH1/TIM3_CH3", 99 PC9 (io) "PC9/TIM14_CH1/TIM3_CH4", 100 PA8 (io) "PA8/USART1_CK/TIM1_CH1/MCO", 101 PA9 (io) "PA9/USART1_TX/TIM1_CH2/TIM15_BKIN", 102 PA10 (io) "PA10/USART1_RX/TIM1_CH3/TIM17_BKIN", 103 PA11 (io) "PA11/USART1_CTS/TIM1_CH4", 104 PA12 (io) "PA12/USART1_RTS/TIM1_ETR", 105 PA13 (io) "PA13/JTMS-SWDIO", 109 PA14 (io) "PA14/JTCK-SWCLK", 110 PA15 (io) "PA15/JTDI/SPI3_NSS/TIM2_CH1_ETR/SPI1_NSS", 111 PC10 (io) "PC10/UART4_TX/USART3_TX", 112 PC11 (io) "PC11/UART4_RX/USART3_RX", 113 PC12 (io) "PC12/UART5_TX/USART3_CK", 114 PD0 (io) "PD0/FSMC_D2", 115 PD1 (io) "PD1/FSMC_D3", 116 PD2 (io) "PD2/TIM3_ETR/UART5_RX", 117 PD3 (io) "PD3/FSMC_CLK/USART2_CTS", 118 PD4 (io) "PD4/FSMC_NOE/USART2_RTS", 119 PD5 (io) "PD5/FSMC_NWE/USART2_TX", 122 PD6 (io) "PD6/FSMC_NWAIT/USART2_RX", 123 PD7 (io) "PD7/FSMC_NE1/USART2_CK", 133 PB3 (io) "PB3/JTDO/SPI3_SCK/TRACESWO/TIM2_CH2/SPI1_SCK", 134 PB4 (io) "PB4/NJTRST/SPI3_MISO/TIM3_CH1/SPI1_MISO", 135 PB5 (io) "PB5/I2C1_SMBA/SPI3_MOSI/TIM16_BKIN/TIM3_CH2/SPI1_MOSI", 136 PB6 (io) "PB6/I2C1_SCL/TIM4_CH1/TIM16_CH1N/USART1_TX", 137 PB7 (io) "PB7/I2C1_SDA/FSMC_NADV/TIM4_CH2/TIM17_CH1N/USART1_RX", 139 PB8 (io) "PB8/TIM4_CH3/TIM16_CH1/HDMI_CEC/I2C1_SCL", 140 PB9 (io) "PB9/TIM4_CH4/TIM17_CH1/I2C1_SDA"
part B pins: 1 PE2 (io) "PE2/TRACECK/FSMC_A23", 2 PE3 (io) "PE3/TRACED0/FSMC_A19", 3 PE4 (io) "PE4/TRACED1/FSMC_A20", 4 PE5 (io) "PE5/TRACED2/FSMC_A21", 5 PE6 (io) "PE6/TRACED3/FSMC_A22", 10 PF0 (io) "PF0/FSMC_A0", 11 PF1 (io) "PF1/FSMC_A1", 12 PF2 (io) "PF2/FSMC_A2", 13 PF3 (io) "PF3/FSMC_A3", 14 PF4 (io) "PF4/FSMC_A4", 15 PF5 (io) "PF5/FSMC_A5", 18 PF6 (io), 19 PF7 (io), 20 PF8 (io), 21 PF9 (io), 22 PF10 (io), 23 OSC_IN (in), 24 OSC_OUT, 25 NRST (io), 49 PF11 (io), 50 PF12 (io) "PF12/FSMC_A6", 53 PF13 (io) "PF13/FSMC_A7", 54 PF14 (io) "PF14/FSMC_A8", 55 PF15 (io) "PF15/FSMC_A9", 56 PG0 (io) "OSC_OUT", 57 PG1 (io) "PG1/FSMC_A11", 58 PE7 (io) "PE7/FSMC_D4/TIM1_ETR", 59 PE8 (io) "PE8/FSMC_D5/TIM1_CH1N", 60 PE9 (io) "PE9/FSMC_D6/TIM1_CH1", 63 PE10 (io) "PE10/FSMC_D7/TIM1_CH2N", 64 PE11 (io) "PE11/FSMC_D8/TIM1_CH2", 65 PE12 (io) "PE12/FSMC_D9/TIM1_CH3N", 66 PE13 (io) "PE13/FSMC_D10/TIM1_CH3", 67 PE14 (io) "PE14/FSMC_D11/TIM1_CH4", 68 PE15 (io) "PE15/FSMC_D12/TIM1_BKIN", 87 PG2 (io) "PG2/FSMC_A12", 88 PG3 (io) "PG3/FSMC_A13", 89 PG4 (io) "PG4/FSMC_A14", 90 PG5 (io) "PG5/FSMC_A15", 91 PG6 (io), 92 PG7 (io), 93 PG8 (io), 106 NC, 124 PG9 (io) "PG9/FSMC_NE2", 125 PG10 (io) "PG10/FSMC_NE3", 126 PG11 (io), 127 PG12 (io) "PG12/FSMC_NE4", 128 PG13 (io) "PG13/FSMC_A24", 129 PG14 (io) "PG14/FSMC_A25", 132 PG15 (io), 138 BOOT0 (in), 141 PE0 (io) "PE0/TIM4_ETR/FSMC_NBL0", 142 PE1 (io) "PE1/FSMC_NBL1"
part C pins: 6 VBAT (power), 16 VSS_5 (power), 17 VDD_5 (power), 30 VSSA (power), 31 VREF- (power), 32 VREF+ (power), 33 VDDA (power), 38 VSS_4 (power), 39 VDD_4 (power), 51 VSS_6 (power), 52 VDD_6 (power), 61 VSS_7 (power), 62 VDD_7 (power), 71 VSS_1 (power), 72 VDD_1 (power), 83 VSS_8 (power), 84 VDD_8 (power), 94 VSS_9 (power), 95 VDD_9 (power), 107 VSS_2 (power), 108 VDD_2 (power), 120 VSS_10 (power), 121 VDD_10 (power), 130 VSS_11 (power), 131 VDD_11 (power), 143 VSS_3 (power), 144 VDD_3 (power)